# Altium schematic symbol library MY.SchLib: 652 symbols (part 4 of 7)
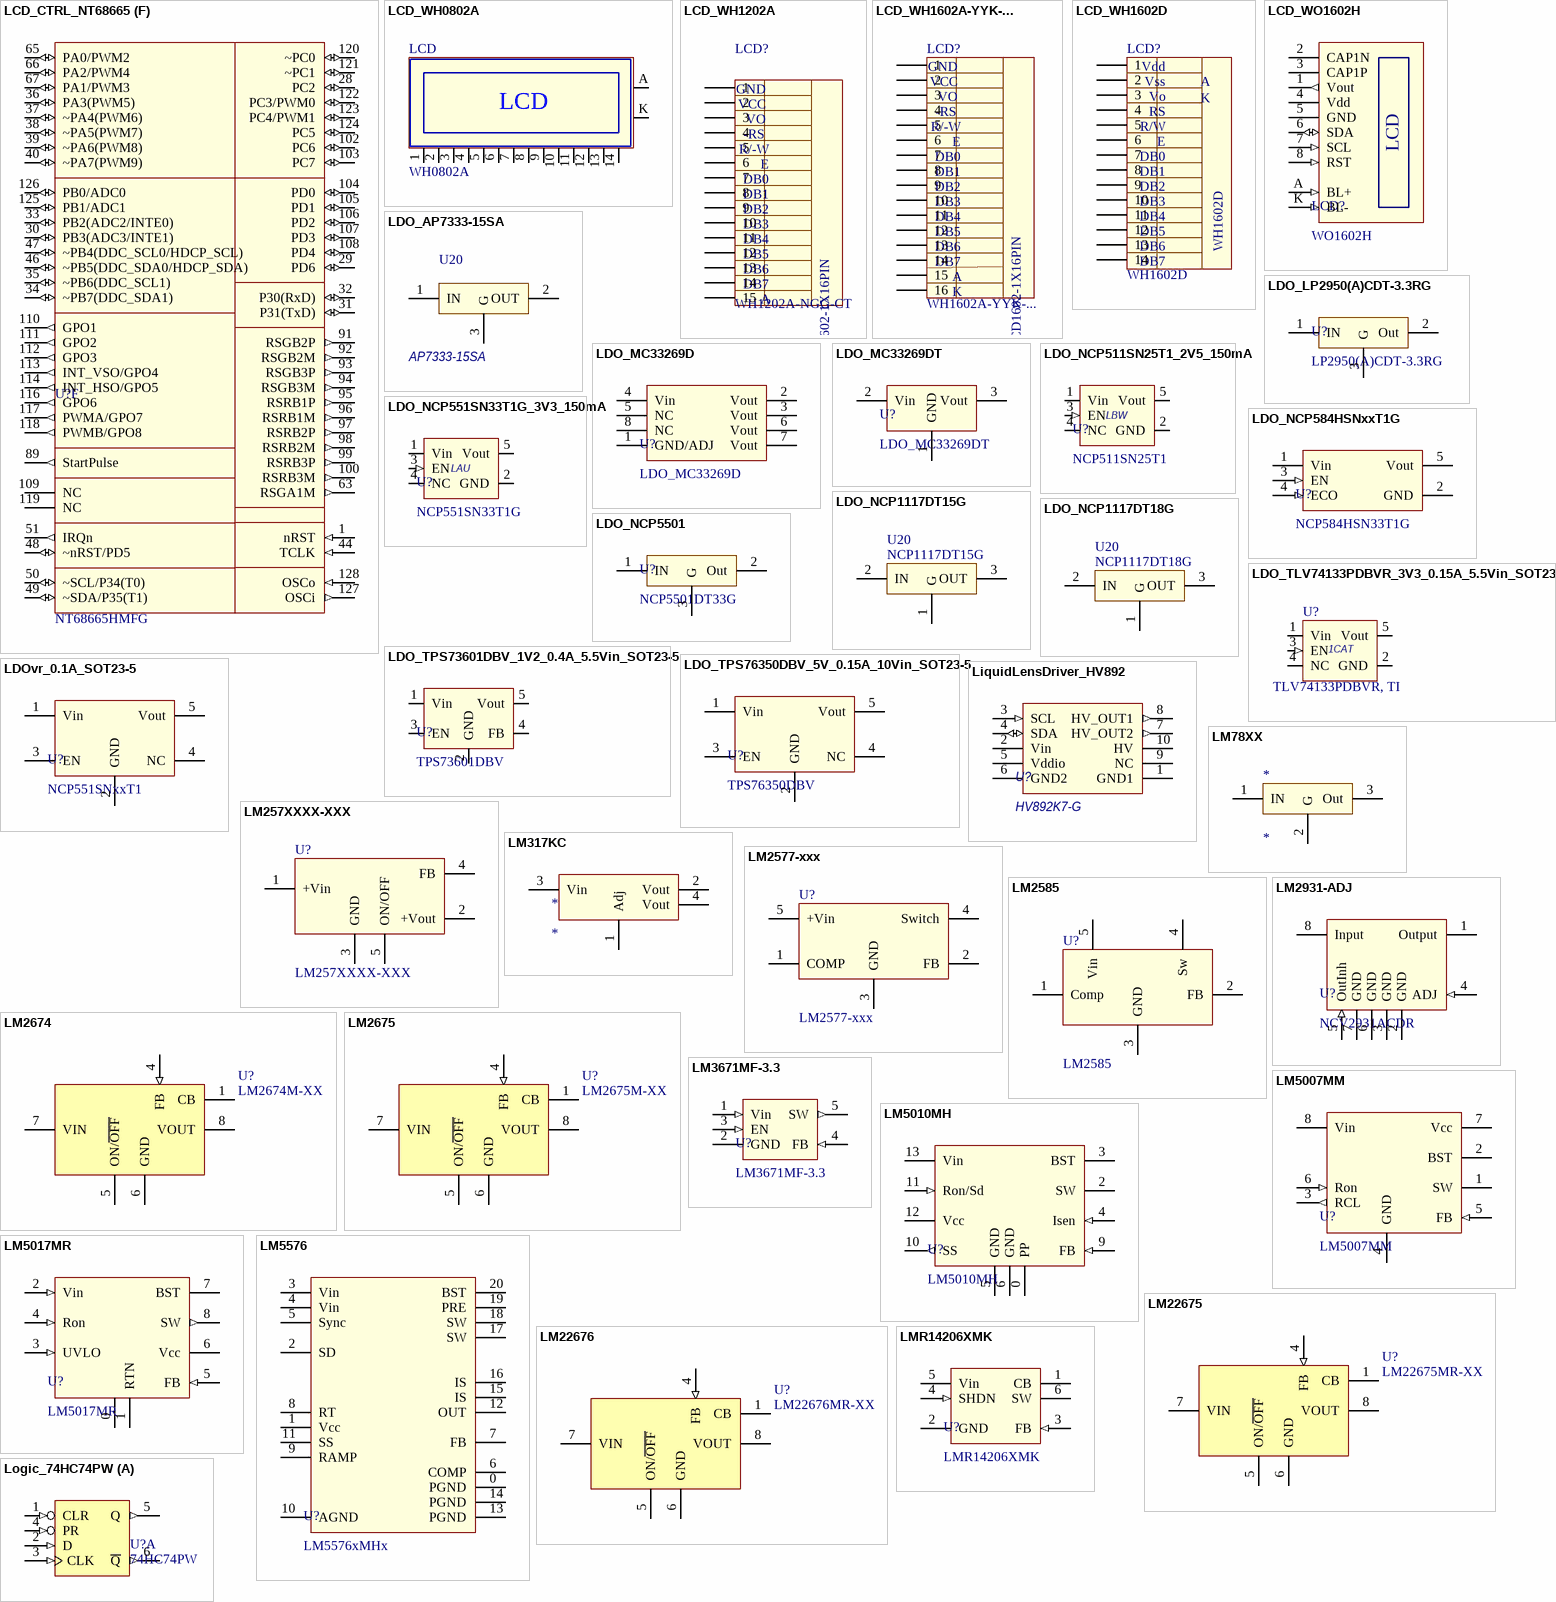
[diagram p44: symbols LCD_CTRL_NT68665 to Logic_74HC74PW]

## LCD_CTRL_NT68665
designator U?, comment NT68665HMFG
footprint QFP-128_wPowerPad
part A pins: 19 BIN+ (in), 20 BIN- (in), 21 SOGI1 (in), 22 GIN1+ (in), 23 GIN1- (in), 24 RIN1+ (in), 25 RIN1- (in), 41 ~HSYNCI1 (in), 42 ~VSYNCI0/TOUTP (in)
part B pins: 4 TMDS_Rx2+ (in), 5 TMDS_Rx2- (in), 7 TMDS_Rx1+ (in), 8 TMDS_Rx1- (in), 10 TMDS_Rx0+ (in), 11 TMDS_Rx0- (in), 13 TMDS_RxC+ (in), 14 TMDS_RxC- (in), 16 TMDS_Rext (in)
part C pins: 68 RSGA2P/LVDS_T7P (out), 69 RSGA2M/LVDS_T7M (out), 70 RSGA3P/LVDS_CLK2P (out), 71 RSGA3M/LVDS_CLK2M (out), 72 RSRA1P/LVDS_T6P/RSBB0P (out), 73 RSRA1M/LVDS_T6M/RSBB0M (out), 74 RSRA2P/LVDS_T5P/RSGB0P (out), 75 RSRA2M/LVDS_T5M/RSGB0M (out), 76 RSRA3P/LVDS_T4P/RSRB0P (out), 77 RSRA3M/LVDS_T4M/RSRB0M (out), 79 RSBB1P/LVDS_T3P (out), 80 RSBB1M/LVDS_T3M (out), 81 RSBB2P/LVDS_CLK1P (out), 82 RSBB2M/LVDS_CLK1M (out), 83 RSBB3P/LVDS_T2P (out), 84 RSBB3M/LVDS_T2M (out), 85 RSCLKBP/LVDS_T1P (out), 86 RSCLKBM/LVDS_T1M (out), 87 RSGB1P/LVDS_T0P (out), 88 RSGB1M/LVDS_T0M (out)
part D pins: 54 RSBA1P/V0 (io), 55 RSBA1M/V1 (io), 56 RSBA2P/V2 (io), 57 RSBA2M/V3 (io), 58 RSBA3P/V4 (io), 59 RSBA3M/V5 (io), 60 RSCLKAP/V6 (io), 61 RSCLKAM/V7 (io), 62 RSGA1P/YUV_CLK (io)
part E pins: 0 PowerPad, 2 MCU_3V3 (power), 3 MCU_GND (power), 6 3V3_TMDS_AVcc (power), 9 TMDS_AGND (power), 12 TMDS_AGND (power), 15 3V3_TMDS_AVcc (power), 17 3V3_TMDS_PVcc (power), 18 TMDS_PGND (power), 26 ADC_Vaa (power), 27 ADC_GNDA (power), 43 PLL_GND (power), 45 1V8_PLL_Vdd (power), 52 1V8CVdd (power), 53 DVDD (power), 64 DGND/CGND (power), 78 DGND/CGND (power), 90 DVDD (power), 101 DGND/CGND (power), 115 1V8CVdd (power)
part F pins: 1 nRST (in), 28 PC2 (io), 29 PD6 (io), 30 PB3(ADC3/INTE1) (io), 31 P31(TxD) (io), 32 P30(RxD) (io), 33 PB2(ADC2/INTE0) (io), 34 ~PB7(DDC_SDA1) (io), 35 ~PB6(DDC_SCL1) (io), 36 PA3(PWM5) (io), 37 ~PA4(PWM6) (io), 38 ~PA5(PWM7) (io), 39 ~PA6(PWM8) (io), 40 ~PA7(PWM9) (io), 44 TCLK (in), 46 ~PB5(DDC_SDA0/HDCP_SDA) (io), 47 ~PB4(DDC_SCL0/HDCP_SCL) (io), 48 ~nRST/PD5 (io), 49 ~SDA/P35(T1) (io), 50 ~SCL/P34(T0) (io), 51 IRQn (out), 63 RSGA1M (out), 65 PA0/PWM2 (io), 66 PA2/PWM4 (io), 67 PA1/PWM3 (io), 89 StartPulse (out), 91 RSGB2P (out), 92 RSGB2M (out), 93 RSGB3P (out), 94 RSGB3M (out), 95 RSRB1P (out), 96 RSRB1M (out), 97 RSRB2P (out), 98 RSRB2M (out), 99 RSRB3P (out), 100 RSRB3M (out), 102 PC6 (io), 103 PC7 (io), 104 PD0 (io), 105 PD1 (io), 106 PD2 (io), 107 PD3 (io), 108 PD4 (io), 109 NC, 110 GPO1 (out), 111 GPO2 (out), 112 GPO3 (out), 113 INT_VSO/GPO4 (out), 114 INT_HSO/GPO5 (out), 116 GPO6 (out), 117 PWMA/GPO7 (out), 118 PWMB/GPO8 (out), 119 NC, 120 ~PC0 (io), 121 ~PC1 (io), 122 PC3/PWM0 (io), 123 PC4/PWM1 (io), 124 PC5 (io), 125 PB1/ADC1 (io), 126 PB0/ADC0 (io), 127 OSCi (out), 128 OSCo (in)

## LCD_WH0802A
designator LCD, comment WH0802A
footprint LCD_WH0802A
pins: 1, 2, 3, 4, 5, 6, 7, 8, 9, 10, 11, 12, 13, 14, A, K

## LCD_WH1202A
designator LCD?, comment WH1202A-NGG-CT
footprint LCD_WH1202_for 3xx series
pins: 1, 2, 3, 4, 5, 6, 7, 8, 9, 10, 11, 12, 13, 14, 15
text: GND; VCC; VO; -RS; R/-W; E; DB0; DB1; DB2; DB3; DB4; DB5; DB6; LCD1602-1X16PIN; DB7; A

## LCD_WH1602A-YYK-...
designator LCD?, comment WH1602A-YYK-...
footprint LCD_WH1602A_
pins: 1, 2, 3, 4, 5, 6, 7, 8, 9, 10, 11, 12, 13, 14, 15, 16
text: GND; VCC; VO; -RS; R/-W; E; DB0; DB1; DB2; DB3; DB4; DB5; DB6; LCD1602-1X16PIN; DB7; A; K

## LCD_WH1602D
designator LCD?, comment WH1602D
footprint LCD_WH1602D
pins: 1, 2, 3, 4, 5, 6, 7, 8, 9, 10, 11, 12, 13, 14
text: Vdd; Vss; A; Vo; K; RS; R/W; E; DB0; DB1; DB2; DB3; DB4; DB5; DB6; DB7

## LCD_WO1602H
designator LCD?, comment WO1602H
Analog: RX1602A4-YHW-TS
footprint LCD_WO1602H
pins: 1 Vout (out), 2 CAP1N, 3 CAP1P, 4 Vdd (power), 5 GND (power), 6 SDA (io), 7 SCL (in), 8 RST (in), A BL+ (in), K BL- (in)
text: LCD

## LDO_AP7333-15SA
designator U20, comment value AP7333-15SA  (hidden comment: AP7333-15SA, DiodesInc)
HelpURL: L:\Dev\Техническая документация\Стабилизаторы напряжения\LDO\DiodesInc\AP7333.pdf
footprint SOT23 (SOT-23; 3 Leads; Body 3.0 x 2.5 mm, inc. leads (LxW max))
pins: 1 IN, 2 OUT, 3 G

## LDO_LP2950(A)CDT-3.3RG
designator U?, comment LP2950(A)CDT-3.3RG
footprint D-PAK
pins: 1 IN, 2 Out, 3 G

## LDO_MC33269D
designator U?
footprint SO8
pins: 1 GND/ADJ, 2 Vout, 3 Vout, 4 Vin, 5 NC, 6 Vout, 7 Vout, 8 NC

## LDO_MC33269DT
designator U?
footprint D-PAK
pins: 1 GND, 2 Vin, 3 Vout

## LDO_NCP511SN25T1_2V5_150mA
designator U?, comment NCP511SN25T1
HelpURL: L:\Dev\Техническая документация\Стабилизаторы напряжения\LDO\ONsemiconductor\ncp511.pdf
footprint SOT_23-5 (SOT23, 5-Leads, Body 2,90x2,70mm, Pitch 0,95mm, IPC Medium Density)
pins: 1 Vin (power), 2 GND (power), 3 EN (in), 4 NC, 5 Vout (power)
text: LBW

## LDO_NCP551SN33T1G_3V3_150mA
designator U?, comment NCP551SN33T1G
HelpURL: L:\Dev\Техническая документация\Стабилизаторы напряжения\LDO\SOT23-5\NCP551-D.PDF
footprint SOT_23-5 (SOT23, 5-Leads, Body 2,90x2,70mm, Pitch 0,95mm, IPC Medium Density)
pins: 1 Vin (power), 2 GND (power), 3 EN (in), 4 NC, 5 Vout (power)
text: LAU

## LDO_NCP584HSNxxT1G
designator U?, comment NCP584HSN33T1G
HelpURL: L:\Dev\Техническая документация\Стабилизаторы напряжения\LDO\SOT23-5\NCP584-D_200mA.PDF
footprint SOT_23-5 (SOT23, 5-Leads, Body 2,90x2,70mm, Pitch 0,95mm, IPC Medium Density)
pins: 1 Vin (power), 2 GND (power), 3 EN (in), 4 ECO (in), 5 Vout (power)

## LDO_NCP1117DT15G
designator U20, comment NCP1117DT15G
HelpURL: L:\Dev\Техническая документация\Стабилизаторы напряжения\LDO\ONsemiconductor\NCP1117-D.PDF
footprint D-PAK
pins: 1 G, 2 IN, 3 OUT

## LDO_NCP1117DT18G
designator U20, comment NCP1117DT18G
HelpURL: L:\Dev\Техническая документация\Стабилизаторы напряжения\LDO\ONsemiconductor\NCP1117-D.PDF
footprint D-PAK
pins: 1 G, 2 IN, 3 OUT

## LDO_NCP5501
designator U?, comment NCP5501DT33G
Analog: K78xx-500 (Morsun), PSR-78xxLF(Peak)
footprint D-PAK
pins: 1 IN, 2 Out, 3 G

## LDO_TLV74133PDBVR_3V3_0.15A_5.5Vin_SOT23-5
designator U?, comment TLV74133PDBVR, TI  Marking Code: 1CAT
HelpURL: L:\Dev\Техническая документация\Стабилизаторы напряжения\LDO\SOT23-5\tlv741p.pdf
footprint SOT_23-5 (SOT23, 5-Leads, Body 2,90x2,70mm, Pitch 0,95mm, IPC Medium Density)
pins: 1 Vin (power), 2 GND (power), 3 EN (in), 4 NC, 5 Vout (power)

## LDO_TPS73601DBV_1V2_0.4A_5.5Vin_SOT23-5
designator U?, comment TPS73601DBV
Vfb: 1.2V; HelpURL: L:\Dev\Техническая документация\Стабилизаторы напряжения\LDO\TI\CapFree\tps736xx_0.4A_5.5V.pdf
footprint SOT_23-5 (SOT23, 5-Leads, Body 2,90x2,70mm, Pitch 0,95mm, IPC Medium Density)
pins: 1 Vin, 2 GND, 3 EN, 4 FB, 5 Vout

## LDO_TPS76350DBV_5V_0.15A_10Vin_SOT23-5
designator U?, comment TPS76350DBV
HelpURL: L:\Dev\Техническая документация\Стабилизаторы напряжения\LDO\SOT23-5\ti~tps76301.pdf
footprint SOT_23-5 (SOT23, 5-Leads, Body 2,90x2,70mm, Pitch 0,95mm, IPC Medium Density)
pins: 1 Vin, 2 GND, 3 EN, 4 NC, 5 Vout

## LDOvr_0.1A_SOT23-5
designator U?, comment NCP551SNxxT1
Analog: NCP(V)551,MC78PC,TPS761,LP2981
footprint SOT_23-5 (SOT23, 5-Leads, Body 2,90x2,70mm, Pitch 0,95mm, IPC Medium Density)
pins: 1 Vin, 2 GND, 3 EN, 4 NC, 5 Vout

## LiquidLensDriver_HV892
designator U?, comment HV892K7-G
I2C_address: 0100011b; HelpURL: L:\Dev\Техническая документация\Драйвер жидкой линзы\HV892 A042314.pdf
footprint DFN-10_4x4_0.65p
pins: 0, 1 GND1 (power), 2 Vin (power), 3 SCL (in), 4 SDA (io), 5 Vddio (power), 6 GND2 (power), 7 HV_OUT2 (out), 8 HV_OUT1 (out), 9 NC, 10 HV (power)

## LM78XX
designator *
footprint TO-220_surface
pins: 1 IN, 2 G, 3 Out, 4 GND

## LM257XXXX-XXX
designator U?
footprint TO-263-5LEADS
pins: 0 hidden, 1 +Vin, 2 +Vout, 3 GND, 4 FB, 5 ON/OFF

## LM317KC
designator *
footprint TO-220_surface
pins: 1 Adj, 2 Vout, 3 Vin, 4 Vout

## LM2577-xxx
designator U?
footprint TO-263-5LEADS
pins: 0 hidden, 1 COMP, 2 FB, 3 GND, 4 Switch, 5 +Vin

## LM2585
designator U?
footprint TO-263-5LEADS
pins: 0 hidden, 1 Comp, 2 FB, 3 GND, 4 Sw, 5 Vin

## LM2674
designator U?, comment LM2674M-XX
DC/DC voltage regulator
footprint SO8
pins: 1 CB, 4 FB (in), 5 ON/~{OFF}, 6 GND (power), 7 VIN (power), 8 VOUT (power)

## LM2675
designator U?, comment LM2675M-XX
DC/DC voltage regulator
footprint SO8
pins: 1 CB, 4 FB (in), 5 ON/~{OFF}, 6 GND (power), 7 VIN (power), 8 VOUT (power)

## LM2931-ADJ
designator U?, comment NCV2931ACDR
footprint SO8
pins: 1 Output (power), 2 GND (power), 3 GND (power), 4 ADJ (in), 5 OutInh (in), 6 GND (power), 7 GND (power), 8 Input (power)

## LM3671MF-3.3
designator U?
HelpURL: L:\Dev\Техническая документация\Стабилизаторы напряжения\Импульсные (DC-DC не изол)\1MHZ\lm3671.pdf
footprint SOT23-5
pins: 1 Vin (in), 2 GND (power), 3 EN (in), 4 FB (in), 5 SW (out)

## LM5007MM
designator U?
footprint VSSOP8(TI)
pins: 1 SW (oe), 2 BST (power), 3 RCL (out), 4 GND (power), 5 FB (in), 6 Ron (in), 7 Vcc (power), 8 Vin (power)

## LM5010MH
designator U?
footprint TSSOP14_powerpad
pins: 0 PP, 1 NC hidden, 2 SW (oe), 3 BST (power), 4 Isen (in), 5 GND (power), 6 GND (power), 7 NC hidden, 8 NC hidden, 9 FB (in), 10 SS (out), 11 Ron/Sd (in), 12 Vcc (power), 13 Vin (power), 14 NC hidden

## LM5017MR
designator U?
footprint SO8 _power
pins: 0 PowerPAD (power), 1 RTN (power), 2 Vin (in), 3 UVLO (in), 4 Ron (in), 5 FB (in), 6 Vcc (power), 7 BST (power), 8 SW (out)

## LM5576
designator U?, comment LM5576xMHx
footprint TSSOP20
pins: 0 PGND (power), 1 Vcc (power), 2 SD (power), 3 Vin (power), 4 Vin (power), 5 Sync (power), 6 COMP (power), 7 FB (power), 8 RT (power), 9 RAMP (power), 10 AGND (power), 11 SS (power), 12 OUT (power), 13 PGND (power), 14 PGND (power), 15 IS (power), 16 IS (power), 17 SW (power), 18 SW (power), 19 PRE (power), 20 BST (power)

## LM22675
designator U?, comment LM22675MR-XX
DC/DC voltage regulator
footprint SO8 _power
pins: 0 (power), 1 CB, 4 FB (in), 5 ON/~{OFF}, 6 GND (power), 7 VIN (power), 8 VOUT (power)

## LM22676
designator U?, comment LM22676MR-XX
DC/DC voltage regulator
footprint SO8 _power
pins: 0 (power), 1 CB, 4 FB (in), 5 ON/~{OFF}, 6 GND (power), 7 VIN (power), 8 VOUT (power)

## LMR14206XMK
designator U?
footprint SOT23-6
pins: 1 CB (power), 2 GND (power), 3 FB (in), 4 SHDN (in), 5 Vin (power), 6 SW (power)

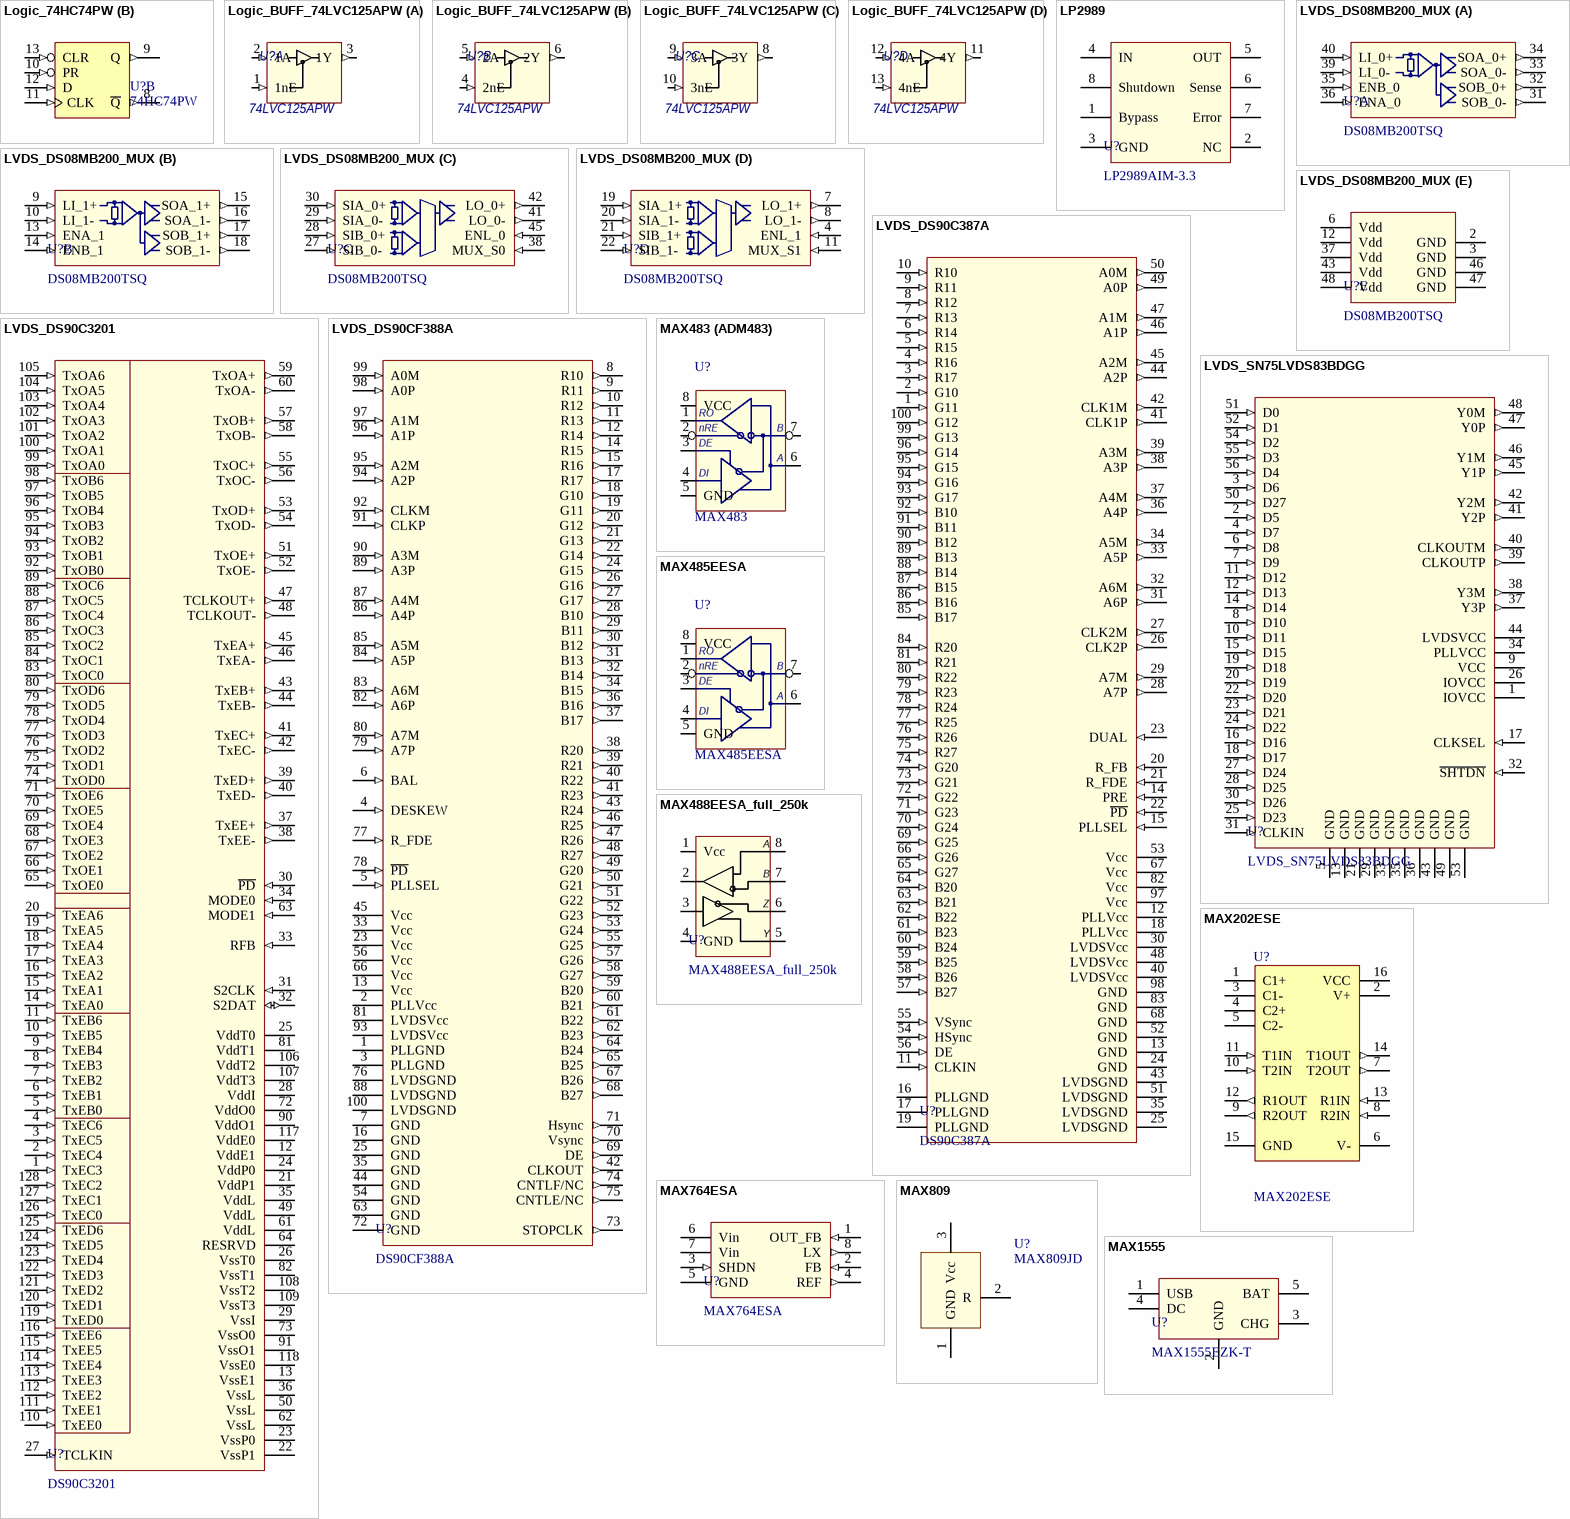
[diagram p18: symbols Logic_74HC74PW to MAX1555]

## Logic_74HC74PW
designator U?, comment 74HC74PW
Dual D-Type Flip-Flop with Preset and Clear; Published: 8-Jun-2000; LatestRevisionDate: 13-Apr-2006; LatestRevisionNote: IPC-7351 Footprint Added.; DatasheetVersion: Oct-1992; PackageVersion: Sep-1998; PackageReference: SO14; Publisher: Altium Limited; PackageDescription: 14-Pin Small Outline Integrated Circuit 1.27 mm Pitch; Code_IPC: SOIC127P600-14; ComponentLink1Description: Manufacturer Link; ComponentLink1URL: http://www.st.com/; ComponentLink2Description: Datasheet; ComponentLink2URL: http://www.st.com/stonline/products/literature/ds/2000/m74hc74.pdf; HelpURL: L:\Dev\Техническая документация\Логика\Триггеры\RS&D\sn74hc74.pdf; Price, $: 0.1
footprint TSSOP14
pins on every part: 7 GND (power) hidden to GND, 14 VCC (power) hidden to 3V3
part A pins: 1 CLR (in), 2 D (in), 3 CLK (in), 4 PR (in), 5 Q (out), 6 ~{Q} (out)
part B pins: 8 ~{Q} (out), 9 Q (out), 10 PR (in), 11 CLK (in), 12 D (in), 13 CLR (in)

## Logic_BUFF_74LVC125APW
designator U?, comment value 74LVC125APW  (hidden comment: 74LVC125APW, Nexperia)
Analog: SN74LVC125APW, TI;; HelpURL: L:\Dev\Техническая документация\Логика\Буферы\4ch_nonInverted_74LVC125A_Nexperia.pdf; ComponentLink1Description: SN74LVC125A_Datasheet; ComponentLink1URL: L:\Dev\Техническая документация\Логика\Буферы\4ch_nonInverted_sn74lvc125a_TI.pdf
footprint TSSOP14
part A pins: 1 1nE (in), 2 1A (in), 3 1Y (out), 7 GND (power) hidden to GND, 14 Vcc (power) hidden to 3V3
part B pins: 4 2nE (in), 5 2A (in), 6 2Y (out)
part C pins: 8 3Y (out), 9 3A (in), 10 3nE (in)
part D pins: 11 4Y (out), 12 4A (in), 13 4nE (in)

## LP2989
designator U?, comment LP2989AIM-3.3
footprint SO8
pins: 1 Bypass, 2 NC, 3 GND, 4 IN, 5 OUT, 6 Sense, 7 Error, 8 Shutdown

## LVDS_DS08MB200_MUX
designator U?, comment DS08MB200TSQ
footprint WQFN48
part A pins: 31 SOB_0- (out), 32 SOB_0+ (out), 33 SOA_0- (out), 34 SOA_0+ (out), 35 ENB_0 (in), 36 ENA_0 (in), 39 LI_0- (in), 40 LI_0+ (in)
part B pins: 9 LI_1+ (in), 10 LI_1- (in), 13 ENA_1 (in), 14 ENB_1 (in), 15 SOA_1+ (out), 16 SOA_1- (out), 17 SOB_1+ (out), 18 SOB_1- (out)
part C pins: 27 SIB_0- (in), 28 SIB_0+ (in), 29 SIA_0- (in), 30 SIA_0+ (in), 38 MUX_S0 (in), 41 LO_0- (out), 42 LO_0+ (out), 45 ENL_0 (in)
part D pins: 4 ENL_1 (in), 7 LO_1+ (out), 8 LO_1- (out), 11 MUX_S1 (in), 19 SIA_1+ (in), 20 SIA_1- (in), 21 SIB_1+ (in), 22 SIB_1- (in)
part E pins: 1 NC hidden, 2 GND (power), 3 GND (power), 5 NC hidden, 6 Vdd (power), 12 Vdd (power), 23 NC hidden, 24 NC hidden, 25 NC hidden, 26 NC hidden, 37 Vdd (power), 43 Vdd (power), 44 NC hidden, 46 GND (power), 47 GND (power), 48 Vdd (power)

## LVDS_DS90C387A
designator U?, comment DS90C387A
footprint TQFP-100(100A)
pins: 1 G11 (in), 2 G10 (in), 3 R17 (in), 4 R16 (in), 5 R15 (in), 6 R14 (in), 7 R13 (in), 8 R12 (in), 9 R11 (in), 10 R10 (in), 11 CLKIN (in), 12 PLLVcc (power), 13 GND (power), 14 PRE (in), 15 PLLSEL (in), 16 PLLGND (power), 17 PLLGND (power), 18 PLLVcc (power), 19 PLLGND (power), 20 R_FB (in), 21 R_FDE (in), 22 ~{PD} (in), 23 DUAL (in), 24 GND (power), 25 LVDSGND (power), 26 CLK2P (out), 27 CLK2M (out), 28 A7P (out), 29 A7M (out), 30 LVDSVcc (power), 31 A6P (out), 32 A6M (out), 33 A5P (out), 34 A5M (out), 35 LVDSGND (power), 36 A4P (out), 37 A4M (out), 38 A3P (out), 39 A3M (out), 40 LVDSVcc (power), 41 CLK1P (out), 42 CLK1M (out), 43 LVDSGND (power), 44 A2P (out), 45 A2M (out), 46 A1P (out), 47 A1M (out), 48 LVDSVcc (power), 49 A0P (out), 50 A0M (out), 51 LVDSGND (power), 52 GND (power), 53 Vcc (power), 54 HSync (in), 55 VSync (in), 56 DE (in), 57 B27 (in), 58 B26 (in), 59 B25 (in), 60 B24 (in), 61 B23 (in), 62 B22 (in), 63 B21 (in), 64 B20 (in), 65 G27 (in), 66 G26 (in), 67 Vcc (power), 68 GND (power), 69 G25 (in), 70 G24 (in), 71 G23 (in), 72 G22 (in), 73 G21 (in), 74 G20 (in), 75 R27 (in), 76 R26 (in), 77 R25 (in), 78 R24 (in), 79 R23 (in), 80 R22 (in), 81 R21 (in), 82 Vcc (power), 83 GND (power), 84 R20 (in), 85 B17 (in), 86 B16 (in), 87 B15 (in), 88 B14 (in), 89 B13 (in), 90 B12 (in), 91 B11 (in), 92 B10 (in), 93 G17 (in), 94 G16 (in), 95 G15 (in), 96 G14 (in), 97 Vcc (power), 98 GND (power), 99 G13 (in), 100 G12 (in)

## LVDS_DS90C3201
designator U?, comment DS90C3201
footprint TQFP128
pins: 1 TxEC3 (in), 2 TxEC4 (in), 3 TxEC5 (in), 4 TxEC6 (in), 5 TxEB0 (in), 6 TxEB1 (in), 7 TxEB2 (in), 8 TxEB3 (in), 9 TxEB4 (in), 10 TxEB5 (in), 11 TxEB6 (in), 12 VddE1 (power), 13 VssE1 (power), 14 TxEA0 (in), 15 TxEA1 (in), 16 TxEA2 (in), 17 TxEA3 (in), 18 TxEA4 (in), 19 TxEA5 (in), 20 TxEA6 (in), 21 VddP1 (power), 22 VssP1 (power), 23 VssP0 (power), 24 VddP0 (power), 25 VddT0 (power), 26 VssT0 (power), 27 TCLKIN (in), 28 VddI (power), 29 VssI (power), 30 ~{PD} (in), 31 S2CLK (in), 32 S2DAT (io), 33 RFB (in), 34 MODE0 (in), 35 VddL (power), 36 VssL (power), 37 TxEE+ (out), 38 TxEE- (out), 39 TxED+ (out), 40 TxED- (out), 41 TxEC+ (out), 42 TxEC- (out), 43 TxEB+ (out), 44 TxEB- (out), 45 TxEA+ (out), 46 TxEA- (out), 47 TCLKOUT+ (out), 48 TCLKOUT- (out), 49 VddL (power), 50 VssL (power), 51 TxOE+ (out), 52 TxOE- (out), 53 TxOD+ (out), 54 TxOD- (out), 55 TxOC+ (out), 56 TxOC- (out), 57 TxOB+ (out), 58 TxOB- (out), 59 TxOA+ (out), 60 TxOA- (out), 61 VddL (power), 62 VssL (power), 63 MODE1 (in), 64 RESRVD (power), 65 TxOE0 (in), 66 TxOE1 (in), 67 TxOE2 (in), 68 TxOE3 (in), 69 TxOE4 (in), 70 TxOE5 (in), 71 TxOE6 (in), 72 VddO0 (power), 73 VssO0 (power), 74 TxOD0 (in), 75 TxOD1 (in), 76 TxOD2 (in), 77 TxOD3 (in), 78 TxOD4 (in), 79 TxOD5 (in), 80 TxOD6 (in), 81 VddT1 (power), 82 VssT1 (power), 83 TxOC0 (in), 84 TxOC1 (in), 85 TxOC2 (in), 86 TxOC3 (in), 87 TxOC4 (in), 88 TxOC5 (in), 89 TxOC6 (in), 90 VddO1 (power), 91 VssO1 (power), 92 TxOB0 (in), 93 TxOB1 (in), 94 TxOB2 (in), 95 TxOB3 (in), 96 TxOB4 (in), 97 TxOB5 (in), 98 TxOB6 (in), 99 TxOA0 (in), 100 TxOA1 (in), 101 TxOA2 (in), 102 TxOA3 (in), 103 TxOA4 (in), 104 TxOA5 (in), 105 TxOA6 (in), 106 VddT2 (power), 107 VddT3 (power), 108 VssT2 (power), 109 VssT3 (power), 110 TxEE0 (in), 111 TxEE1 (in), 112 TxEE2 (in), 113 TxEE3 (in), 114 TxEE4 (in), 115 TxEE5 (in), 116 TxEE6 (in), 117 VddE0 (power), 118 VssE0 (power), 119 TxED0 (in), 120 TxED1 (in), 121 TxED2 (in), 122 TxED3 (in), 123 TxED4 (in), 124 TxED5 (in), 125 TxED6 (in), 126 TxEC0 (in), 127 TxEC1 (in), 128 TxEC2 (in)

## LVDS_DS90CF388A
designator U?, comment DS90CF388A
footprint TQFP-100(100A)
pins: 1 PLLGND (power), 2 PLLVcc (power), 3 PLLGND (power), 4 DESKEW (in), 5 PLLSEL (in), 6 BAL (in), 7 GND (power), 8 R10 (out), 9 R11 (out), 10 R12 (out), 11 R13 (out), 12 R14 (out), 13 Vcc (power), 14 R15 (out), 15 R16 (out), 16 GND (power), 17 R17 (out), 18 G10 (out), 19 G11 (out), 20 G12 (out), 21 G13 (out), 22 G14 (out), 23 Vcc (power), 24 G15 (out), 25 GND (power), 26 G16 (out), 27 G17 (out), 28 B10 (out), 29 B11 (out), 30 B12 (out), 31 B13 (out), 32 B14 (out), 33 Vcc (power), 34 B15 (out), 35 GND (power), 36 B16 (out), 37 B17 (out), 38 R20 (out), 39 R21 (out), 40 R22 (out), 41 R23 (out), 42 CLKOUT (out), 43 R24 (out), 44 GND (power), 45 Vcc (power), 46 R25 (out), 47 R26 (out), 48 R27 (out), 49 G20 (out), 50 G21 (out), 51 G22 (out), 52 G23 (out), 53 G24 (out), 54 GND (power), 55 G25 (out), 56 Vcc (power), 57 G26 (out), 58 G27 (out), 59 B20 (out), 60 B21 (out), 61 B22 (out), 62 B23 (out), 63 GND (power), 64 B24 (out), 65 B25 (out), 66 Vcc (power), 67 B26 (out), 68 B27 (out), 69 DE (out), 70 Vsync (out), 71 Hsync (out), 72 GND (power), 73 STOPCLK (out), 74 CNTLF/NC (out), 75 CNTLE/NC (out), 76 LVDSGND (power), 77 R_FDE (in), 78 ~{PD} (in), 79 A7P (in), 80 A7M (in), 81 LVDSVcc (power), 82 A6P (in), 83 A6M (in), 84 A5P (in), 85 A5M (in), 86 A4P (in), 87 A4M (in), 88 LVDSGND (power), 89 A3P (in), 90 A3M (in), 91 CLKP (in), 92 CLKM (in), 93 LVDSVcc (power), 94 A2P (in), 95 A2M (in), 96 A1P (in), 97 A1M (in), 98 A0P (in), 99 A0M (in), 100 LVDSGND (power)

## LVDS_SN75LVDS83BDGG
designator U?
footprint TSSOP56_R-PDSO-G
pins: 1 IOVCC (power), 2 D5 (in), 3 D6 (in), 4 D7 (in), 5 GND (power), 6 D8 (in), 7 D9 (in), 8 D10 (in), 9 VCC (power), 10 D11 (in), 11 D12 (in), 12 D13 (in), 13 GND (power), 14 D14 (in), 15 D15 (in), 16 D16 (in), 17 CLKSEL (in), 18 D17 (in), 19 D18 (in), 20 D19 (in), 21 GND (power), 22 D20 (in), 23 D21 (in), 24 D22 (in), 25 D23 (in), 26 IOVCC (power), 27 D24 (in), 28 D25 (in), 29 GND (power), 30 D26 (in), 31 CLKIN (in), 32 ~{SHTDN} (in), 33 GND (power), 34 PLLVCC (power), 35 GND (power), 36 GND (power), 37 Y3P (out), 38 Y3M (out), 39 CLKOUTP (out), 40 CLKOUTM (out), 41 Y2P (out), 42 Y2M (out), 43 GND (power), 44 LVDSVCC (power), 45 Y1P (out), 46 Y1M (out), 47 Y0P (out), 48 Y0M (out), 49 GND (power), 50 D27 (in), 51 D0 (in), 52 D1 (in), 53 GND (power), 54 D2 (in), 55 D3 (in), 56 D4 (in)

## MAX202ESE
designator U?
+5V RS-232 Transceiver with 0.1µF External Capacitor; Published: 16-Jan-2001; LatestRevisionDate: 13-Apr-2006; LatestRevisionNote: IPC-7351 Footprint Added.; DatasheetVersion: Dec-1996; PackageReference: NSO16; Publisher: Altium Limited; PackageDescription: 16-Pin Small Outline Integrated Circuit 1.27 mm Pitch; Code_JEDEC: MS-012-AC; Code_IPC: SOIC127P600-16; ComponentLink1Description: Manufacturer Link; ComponentLink1URL: http://www.maxim-ic.com/; ComponentLink2Description: Datasheet; ComponentLink2URL: http://pdfserv.maxim-ic.com/en/ds/MAX200-MAX213.pdf
footprint SO16
pins: 1 C1+, 2 V+ (power), 3 C1-, 4 C2+, 5 C2-, 6 V- (power), 7 T2OUT (out), 8 R2IN (in), 9 R2OUT (out), 10 T2IN (in), 11 T1IN (in), 12 R1OUT (out), 13 R1IN (in), 14 T1OUT (out), 15 GND (power), 16 VCC (power)

## MAX483 (ADM483)
designator U?, comment MAX483
footprint SO8
pins: 1 RO, 2 RE, 3, 4, 5 GND, 6, 7, 8 VCC
text: nRE; B; DE; A; DI

## MAX485EESA
designator U?
Analog: MAX13486EESA; HelpURL: L:\Dev\Техническая документация\Интерфейсы\422-485\MAX481_483_485.pdf; ComponentLink1Description: MAX13486EESA_Datasheet; ComponentLink1URL: L:\Dev\Техническая документация\Интерфейсы\422-485\MAX13485E-MAX13486E.pdf
footprint SO8
pins: 1 RO, 2 RE, 3, 4, 5 GND, 6, 7, 8 VCC
text: nRE; B; DE; A; DI

## MAX488EESA_full_250k
designator U?
Analog: MAX13081EESA
footprint SO8
pins: 1 Vcc, 2 RO, 3 DI, 4 GND, 5, 6, 7, 8 A
text: B; Z; Y

## MAX764ESA
designator U?
footprint SO8
pins: 1 OUT_FB (in), 2 FB (in), 3 SHDN (in), 4 REF (out), 5 GND (power), 6 Vin (power), 7 Vin (power), 8 LX (out)

## MAX809
designator U?, comment MAX809JD
footprint SOT23 (SOT-23; 3 Leads; Body 3.0 x 2.5 mm, inc. leads (LxW max))
pins: 1 GND, 2 R, 3 Vcc

## MAX1555
designator U?, comment MAX1555EZK-T
footprint SOT23-5
pins: 1 USB (power), 2 GND (power), 3 CHG (power), 4 DC (power), 5 BAT (power)

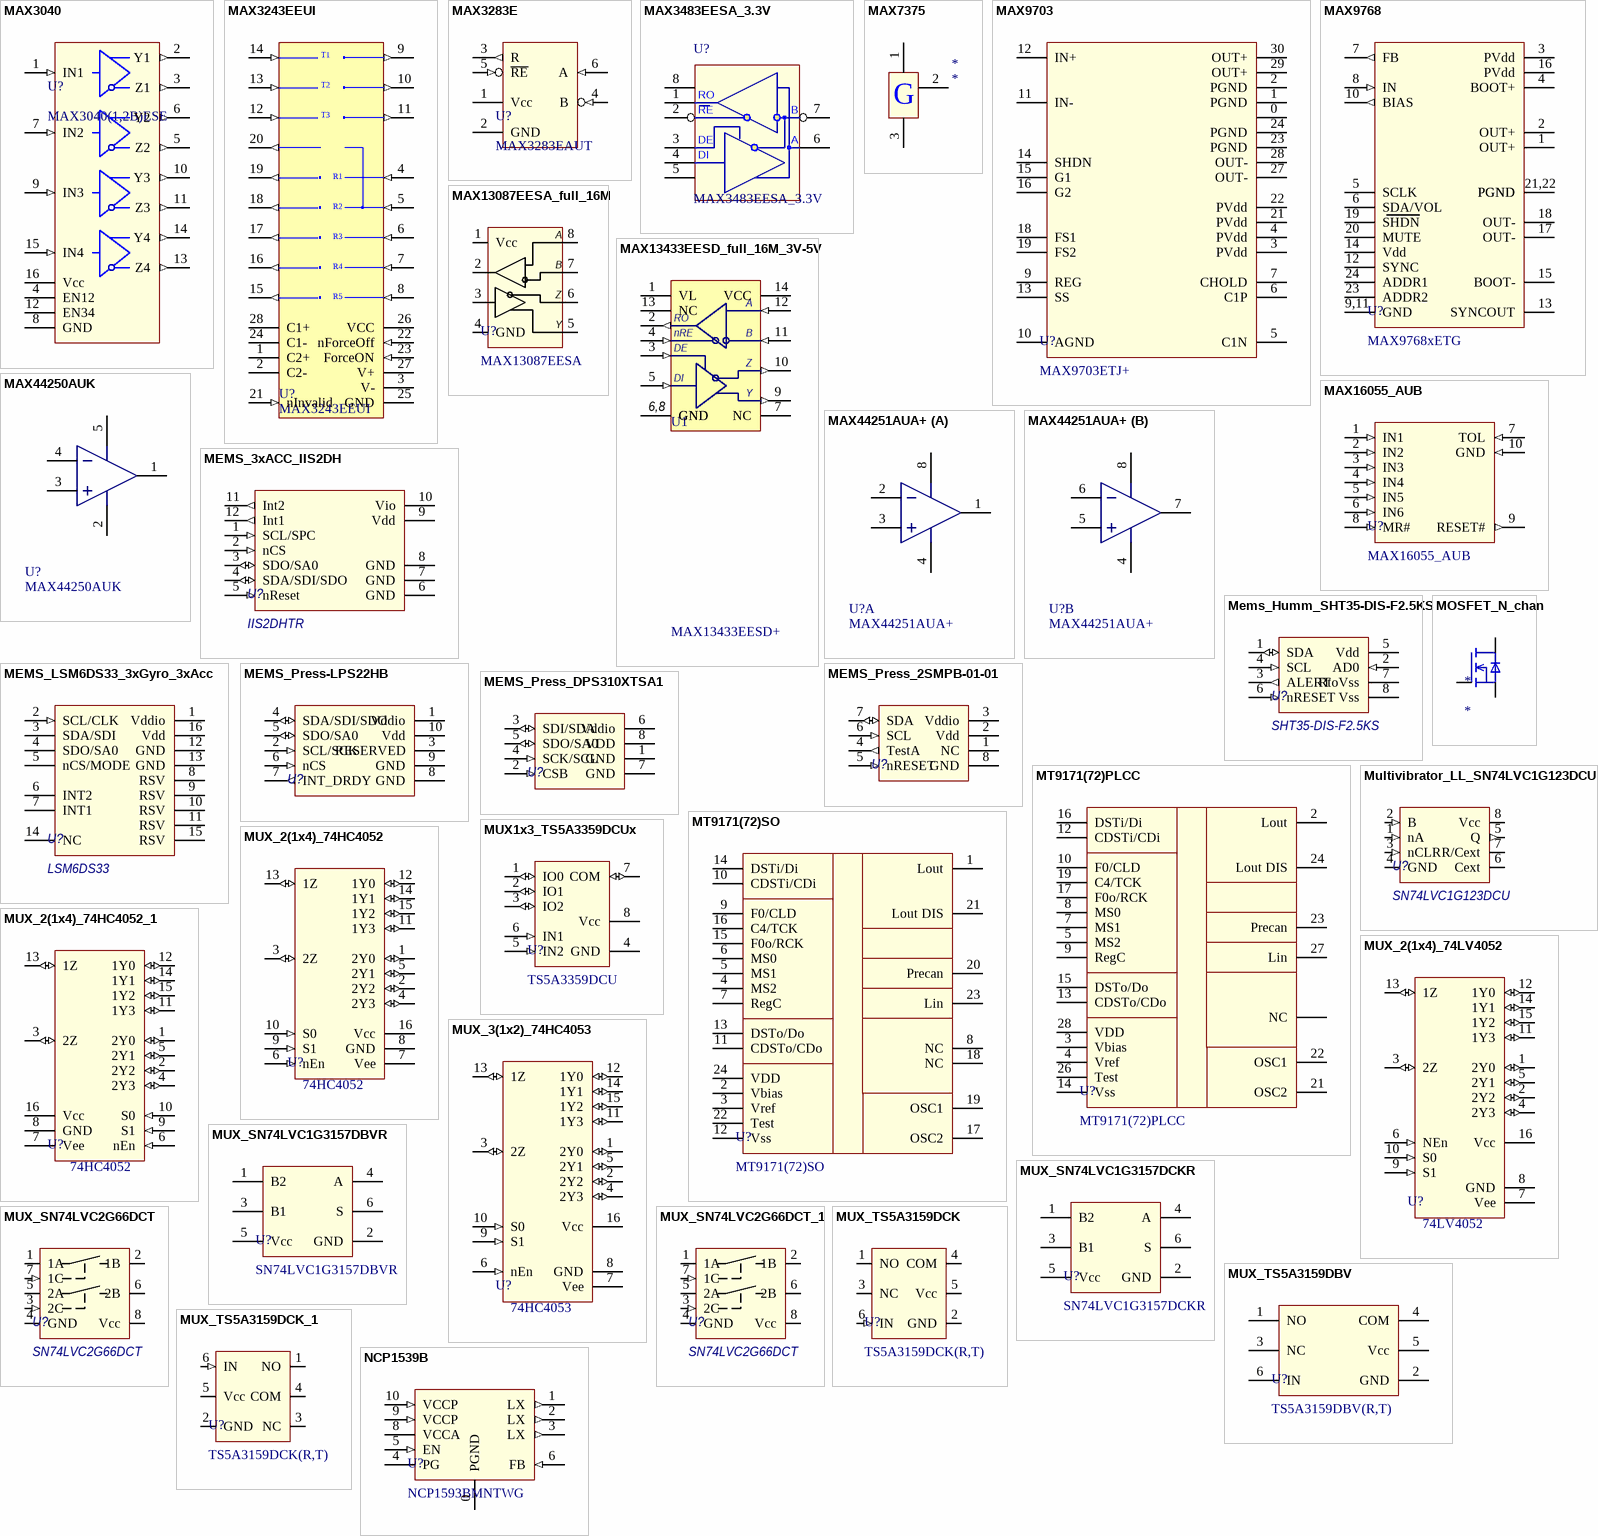
[diagram p19: symbols MAX3040 to NCP1539B]

## MAX3040
designator U?, comment MAX3040(1,2B)ESE
footprint SO16
pins: 1 IN1 (in), 2 Y1 (out), 3 Z1 (out), 4 EN12, 5 Z2 (out), 6 Y2 (out), 7 IN2 (in), 8 GND, 9 IN3 (in), 10 Y3 (out), 11 Z3 (out), 12 EN34, 13 Z4 (out), 14 Y4 (out), 15 IN4 (in), 16 Vcc

## MAX3243EEUI
designator U?
+3-5V RS-232 Transceiver with 0.1µF External Capacitor; Analog: MAX3243EIPWR; Published: 16-Jan-2001; LatestRevisionDate: 13-Apr-2006; LatestRevisionNote: IPC-7351 Footprint Added.; DatasheetVersion: Dec-1996; PackageReference: WSO28; Publisher: Altium Limited; PackageDescription: 28-Pin Small Outline Integrated Circuit 1.27 mm Pitch; ComponentLink1Description: Manufacturer Link; ComponentLink1URL: http://www.maxim-ic.com/; ComponentLink2Description: Datasheet; ComponentLink2URL: http://pdfserv.maxim-ic.com/en/ds/MAX200-MAX213.pdf
footprint WSO28_N (SOIC, 28-Leads, Body 17.9x7.5mm, Pitch 1.27mm, IPC Medium Density)
footprint WSO28_L (SOIC, 28-Leads, Body 17.9x7.5mm, Pitch 1.27mm, IPC High Density)
footprint WSO28_M (SOIC, 28-Leads, Body 17.9x7.5mm, Pitch 1.27mm, IPC Low Density)
footprint TSSOP28
pins: 1 C2+, 2 C2-, 3 V- (power), 4 R1IN (in), 5 R2IN (in), 6 R3IN (in), 7 R4IN (in), 8 R5IN (in), 9 T1OUT (out), 10 T2OUT (out), 11 T3OUT (out), 12 T3IN (in), 13 T2IN (in), 14 T1IN (in), 15 R5OUT (out), 16 R4OUT (out), 17 R3OUT (out), 18 R2OUT (out), 19 R1OUT (out), 20 R2OUTB (out), 21 nInvalid (in), 22 nForceOff (in), 23 ForceON (in), 24 C1-, 25 GND (power), 26 VCC (power), 27 V+ (power), 28 C1+
text: T1; T2; T3; R1; R2; R3; R4; R5

## MAX3283E
designator U?, comment MAX3283EAUT
footprint SOT23-6
pins: 1 Vcc (power), 2 GND (power), 3 R (out), 4 B (in), 5 ~{RE} (in), 6 A (in)

## MAX3483EESA_3.3V
designator U?
HelpURL: L:\Dev\Техническая документация\Интерфейсы\422-485\MAX3483E-MAX3491E_3,3V.pdf
footprint SO8
pins: 1, 2 RE, 3, 4, 5 GND, 6, 7, 8 VCC
text: RO; B; DE; A; DI

## MAX7375
designator *
footprint SC-70
pins: 1, 2, 3
text: G

## MAX9703
designator U?, comment MAX9703ETJ+
footprint PQFP-N32
pins: 0, 1 PGND, 2 PGND, 3 PVdd, 4 PVdd, 5 C1N, 6 C1P, 7 CHOLD, 8 NC hidden, 9 REG, 10 AGND, 11 IN-, 12 IN+, 13 SS, 14 SHDN, 15 G1, 16 G2, 17 NC hidden, 18 FS1, 19 FS2, 20 NC hidden, 21 PVdd, 22 PVdd, 23 PGND, 24 PGND, 25 NC hidden, 26 NC hidden, 27 OUT-, 28 OUT-, 29 OUT+, 30 OUT+, 31 NC hidden, 32 NC hidden

## MAX9768
designator U?, comment MAX9768xETG
footprint QFN24
pins: 0 GND (power), 1 OUT+ (power), 2 OUT+ (power), 3 PVdd (power), 4 BOOT+ (power), 5 SCLK (oc), 6 SDA/VOL (oc), 7 FB (out), 8 IN (in), 9 GND (power), 10 BIAS (out), 11 GND (power), 12 SYNC (power), 13 SYNCOUT (power), 14 Vdd (power), 15 BOOT- (power), 16 PVdd (power), 17 OUT- (power), 18 OUT- (power), 19 SHDN (power), 20 MUTE (power), 21 PGND (power), 22 PGND (power), 23 ADDR2 (power), 24 ADDR1 (power)
text: 21,22; 9,11

## MAX13087EESA_full_16M
designator U?, comment MAX13087EESA
footprint SO8
pins: 1 Vcc, 2 RO, 3 DI, 4 GND, 5, 6, 7, 8 A
text: B; Z; Y

## MAX13433EESD_full_16M_3V-5V
designator U1, comment MAX13433EESD+
Low-Power, RS-485/RS-422 Transceiver,; ComponentLink1Description: Manufacturer Link; ComponentLink1URL: https://www.maximintegrated.com/; ComponentLink2Description: Datasheet; ComponentLink2URL: L:\Dev\Техническая документация\Интерфейсы\422-485\MAX13430E-MAX13433E_FD_3.3-5V.pdf; HelpURL: L:\Dev\Техническая документация\Интерфейсы\422-485\MAX13430E-MAX13433E_FD_3.3-5V.pdf
footprint SO14
footprint NSO14_L (SOIC, 14-Leads, Body 8.7x3.9mm, Pitch 1.27mm, IPC High Density)
footprint NSO14_M (SOIC, 14-Leads, Body 8.7x3.9mm, Pitch 1.27mm, IPC Low Density)
3D model NSO14 (14-Pin Small Outline Integrated Circuit 1.27 mm Pitch)
pins: 1 VL (power), 2 RO (out), 3 DE (in), 4 nRE (in), 5 DI (in), 6 GND (power), 7 NC, 8 GND (power), 9 Y (out), 10 Z (out), 11 B (in), 12 A (in), 13 NC, 14 VCC (power)
text: 6,8

## MAX16055_AUB
designator U?
footprint MSOP10
pins: 1 IN1 (in), 2 IN2 (in), 3 IN3 (in), 4 IN4 (in), 5 IN5 (in), 6 IN6 (in), 7 TOL (in), 8 MR# (in), 9 RESET# (out), 10 GND (in)

## MAX44250AUK
designator U?
Operational Amplifier
footprint SOT23-5
pins: 1 OUT (power), 2 Vss (power), 3 +IN (power), 4 -IN (power), 5 Vcc (power)

## MAX44251AUA+
designator U?
Operational Amplifier
footprint uSOP8(uMAX8)
part A pins: 1 OUT (power), 2 -IN (power), 3 +IN (power), 4 Vss (power), 8 Vcc (power)
part B pins: 4 Vss (power), 5 +IN (power), 6 -IN (power), 7 OUT (power), 8 Vcc (power)

## MEMS_3xACC_IIS2DH
designator U?, comment IIS2DHTR
HelpURL: L:\Dev\Техническая документация\Датчики\MEMS\IIS2DH_3xAcc.pdf
footprint LGA-12_ST (PQFN, 16-Leads, Body 3,00x3,00mm, Pitch 0,50mm, IPC Medium Density)
pins: 1 SCL/SPC (in), 2 nCS (in), 3 SDO/SA0 (io), 4 SDA/SDI/SDO (io), 5 nReset (in), 6 GND (power), 7 GND (power), 8 GND (power), 9 Vdd (power), 10 Vio (power), 11 Int2 (out), 12 Int1 (out)

## Mems_Humm_SHT35-DIS-F2.5KS
designator U?, comment SHT35-DIS-F2.5KS
I2C_address: 100010xb (0x44; 0x45); HelpURL: L:\Dev\Техническая документация\Датчики\Датчики влажности\SHT3x_Datasheet_digital.pdf
footprint DFN-8_2.4x2.4_0.5p
pins: 0 (power), 1 SDA (io), 2 AD0 (in), 3 ALERT (out), 4 SCL (in), 5 Vdd (power), 6 nRESET (in), 7 RtoVss, 8 Vss (power)

## MEMS_LSM6DS33_3xGyro_3xAcc
designator U?, comment LSM6DS33
HelpURL: L:\Dev\Техническая документация\Sensor's\MEMS\LSM6DS33_3xGyro_3xAcc.pdf
footprint LGA-16_ST (PQFN, 16-Leads, Body 3,00x3,00mm, Pitch 0,50mm, IPC Medium Density)
pins: 1 Vddio, 2 SCL/CLK (in), 3 SDA/SDI, 4 SDO/SA0, 5 nCS/MODE, 6 INT2, 7 INT1, 8 RSV, 9 RSV, 10 RSV, 11 RSV, 12 GND, 13 GND, 14 NC, 15 RSV, 16 Vdd

## MEMS_Press-LPS22HB
designator U?, comment LPS22HBTR  (value not drawn)
I2C_address: 101110xb (0x5C; 0x5D); HelpURL: L:\Dev\Техническая документация\Датчики\Датчики давления\ST_LPS22HB.pdf
footprint HLGA-10_ST (PQFN, 16-Leads, Body 3,00x3,00mm, Pitch 0,50mm, IPC Medium Density)
pins: 1 Vddio (power), 2 SCL/SCK (in), 3 RESERVED, 4 SDA/SDI/SDO (io), 5 SDO/SA0 (io), 6 nCS (in), 7 INT_DRDY (out), 8 GND (power), 9 GND (power), 10 Vdd (power)

## MEMS_Press_2SMPB-01-01
designator U?, comment 2SMPB-01-01  (value not drawn)
I2C_address: 1110000b (0x70); HelpURL: L:\Dev\Техническая документация\Датчики\Датчики давления\Omron_2smpb-01-01.pdf
footprint QFN8_OMRON
pins: 1 NC, 2 Vdd (power), 3 Vddio (power), 4 TestA (out), 5 nRESET (in), 6 SCL (in), 7 SDA (io), 8 GND (power)

## MEMS_Press_DPS310XTSA1
designator U?, comment DPS310XTSA1  (value not drawn)
I2C_address: 111011xb (0x76;0x77); HelpURL: L:\Dev\Техническая документация\Датчики\Датчики давления\Infineon-DPS310-DS-v01_00-EN.pdf
footprint PG-VLGA-8-1_Infineon (LGA, 8-Leads, Body 2,00x2,50mmx1,00mm, Pitch 0,65mm)
pins: 1 GND (power), 2 CSB (in), 3 SDI/SDA (io), 4 SCK/SCL (in), 5 SDO/SA0 (io), 6 Vddio (power), 7 GND (power), 8 VDD (power)

## MOSFET_N_chan
designator *
pins: 1, 2, 3

## MT9171(72)PLCC
designator U?
pins: 1 NC, 2 Lout, 3 Vbias, 4 Vref, 5 MS2, 6 NC, 7 MS1, 8 MS0, 9 RegC, 10 F0/CLD, 11 NC, 12 CDSTi/CDi, 13 CDSTo/CDo, 14 Vss, 15 DSTo/Do, 16 DSTi/Di, 17 F0o/RCK, 18 NC, 19 C4/TCK, 20 NC, 21 OSC2, 22 OSC1, 23 Precan, 24 Lout DIS, 25 NC, 26 Test, 27 Lin, 28 VDD

## MT9171(72)SO
designator U?
footprint SSOP24
pins: 1 Lout, 2 Vbias, 3 Vref, 4 MS2, 5 MS1, 6 MS0, 7 RegC, 8 NC, 9 F0/CLD, 10 CDSTi/CDi, 11 CDSTo/CDo, 12 Vss, 13 DSTo/Do, 14 DSTi/Di, 15 F0o/RCK, 16 C4/TCK, 17 OSC2, 18 NC, 19 OSC1, 20 Precan, 21 Lout DIS, 22 Test, 23 Lin, 24 VDD

## Multivibrator_LL_SN74LVC1G123DCU
designator U?, comment SN74LVC1G123DCU
HelpURL: L:\Dev\Техническая документация\Логика\Мультивибраторы\sn74lvc1g123_monostable.pdf
footprint VSSOP8_R-PDSO-G8_TI
pins: 1 nA (in), 2 B (in), 3 nCLR (in), 4 GND (power), 5 Q (out), 6 Cext, 7 R/Cext, 8 Vcc (power)

## MUX1x3_TS5A3359DCUx
designator U?, comment TS5A3359DCU
HelpURL: L:\Dev\Техническая документация\Логика\Мультиплексоры\ts5a3359_1x3.pdf
footprint PSOP-8 (VSSOP-8)
pins: 1 IO0 (io), 2 IO1 (io), 3 IO2 (io), 4 GND (power), 5 IN2 (in), 6 IN1 (in), 7 COM (io), 8 Vcc (power)

## MUX_2(1x4)_74HC4052
designator U?, comment value 74HC4052  (hidden comment: 74HC4052D, NXP; CD74HC4052M, TI)
HelpURL: L:\Dev\Техническая документация\Логика\Мультиплексоры\cd74hc4052.pdf
footprint SO16
pins: 1 2Y0 (io), 2 2Y2 (io), 3 2Z (io), 4 2Y3 (io), 5 2Y1 (io), 6 nEn (in), 7 Vee (power), 8 GND (power), 9 S1 (in), 10 S0 (in), 11 1Y3 (io), 12 1Y0 (io), 13 1Z (io), 14 1Y1 (io), 15 1Y2 (io), 16 Vcc (power)

## MUX_2(1x4)_74HC4052_1
designator U?, comment value 74HC4052  (hidden comment: 74HC4052D, NXP; CD74HC4052M, TI)
HelpURL: L:\Dev\Техническая документация\Логика\Мультиплексоры\cd74hc4052.pdf
footprint SO16
pins: 1 2Y0 (io), 2 2Y2 (io), 3 2Z (io), 4 2Y3 (io), 5 2Y1 (io), 6 nEn (in), 7 Vee (power), 8 GND (power), 9 S1 (in), 10 S0 (in), 11 1Y3 (io), 12 1Y0 (io), 13 1Z (io), 14 1Y1 (io), 15 1Y2 (io), 16 Vcc (power)

## MUX_2(1x4)_74LV4052
designator U?, comment value 74LV4052  (hidden comment: 74LV4052D(NXP), SN74LV4052AN(TI))
HelpURL: L:\Dev\Техническая документация\Логика\Мультиплексоры\sn74lv4052a.pdf
footprint SO16
pins: 1 2Y0 (io), 2 2Y2 (io), 3 2Z (io), 4 2Y3 (io), 5 2Y1 (io), 6 NEn (in), 7 Vee (power), 8 GND (power), 9 S1 (in), 10 S0 (in), 11 1Y3 (io), 12 1Y0 (io), 13 1Z (io), 14 1Y1 (io), 15 1Y2 (io), 16 Vcc (power)

## MUX_3(1x2)_74HC4053
designator U?, comment value 74HC4053  (hidden comment: 74HC4053D, NXP; CD74HC4053M, TI)
footprint SO16
pins: 1 2Y0 (io), 2 2Y2 (io), 3 2Z (io), 4 2Y3 (io), 5 2Y1 (io), 6 nEn (in), 7 Vee (power), 8 GND (power), 9 S1 (in), 10 S0 (in), 11 1Y3 (io), 12 1Y0 (io), 13 1Z (io), 14 1Y1 (io), 15 1Y2 (io), 16 Vcc (power)

## MUX_SN74LVC1G3157DBVR
designator U?, comment SN74LVC1G3157DBVR
footprint SOT23-6
pins: 1 B2, 2 GND (power), 3 B1, 4 A, 5 Vcc, 6 S

## MUX_SN74LVC1G3157DCKR
designator U?, comment SN74LVC1G3157DCKR
footprint SC-70-6
pins: 1 B2, 2 GND (power), 3 B1, 4 A, 5 Vcc, 6 S

## MUX_SN74LVC2G66DCT
designator U?, comment SN74LVC2G66DCT
HelpURL: L:\Dev\Техническая документация\Логика\Мультиплексоры\sn74lvc2g66.pdf
footprint SSOP8_DCT_TI
pins: 1 1A, 2 1B, 3 2C (in), 4 GND (power), 5 2A, 6 2B, 7 1C (in), 8 Vcc (power)

## MUX_SN74LVC2G66DCT_1
designator U?, comment SN74LVC2G66DCT
HelpURL: L:\Dev\Техническая документация\Логика\Мультиплексоры\sn74lvc2g66.pdf
footprint SSOP8_DCT_TI
pins: 1 1A, 2 1B, 3 2C (in), 4 GND (power), 5 2A, 6 2B, 7 1C (in), 8 Vcc (power)

## MUX_TS5A3159DBV
designator U?, comment TS5A3159DBV(R,T)
HelpURL: L:\Dev\Техническая документация\Логика\Мультиплексоры\ts5a3159_1x2.pdf
footprint SOT23-6
pins: 1 NO, 2 GND (power), 3 NC, 4 COM, 5 Vcc, 6 IN

## MUX_TS5A3159DCK
designator U?, comment TS5A3159DCK(R,T)
HelpURL: L:\Dev\Техническая документация\Логика\Мультиплексоры\ts5a3159_1x2.pdf
footprint SC-70-6
pins: 1 NO, 2 GND (power), 3 NC, 4 COM, 5 Vcc (power), 6 IN (in)

## MUX_TS5A3159DCK_1
designator U?, comment TS5A3159DCK(R,T)
HelpURL: L:\Dev\Техническая документация\Логика\Мультиплексоры\ts5a3159_1x2.pdf
footprint SC-70-6
pins: 1 NO, 2 GND (power), 3 NC, 4 COM, 5 Vcc (power), 6 IN (in)

## NCP1539B
designator U?, comment NCP1593BMNTWG
footprint DSON-10
pins: 0 PGND (power), 1 LX (out), 2 LX (out), 3 LX (out), 4 PG (oc), 5 EN (in), 6 FB (in), 7 NC hidden, 8 VCCA (power), 9 VCCP (in), 10 VCCP (in)

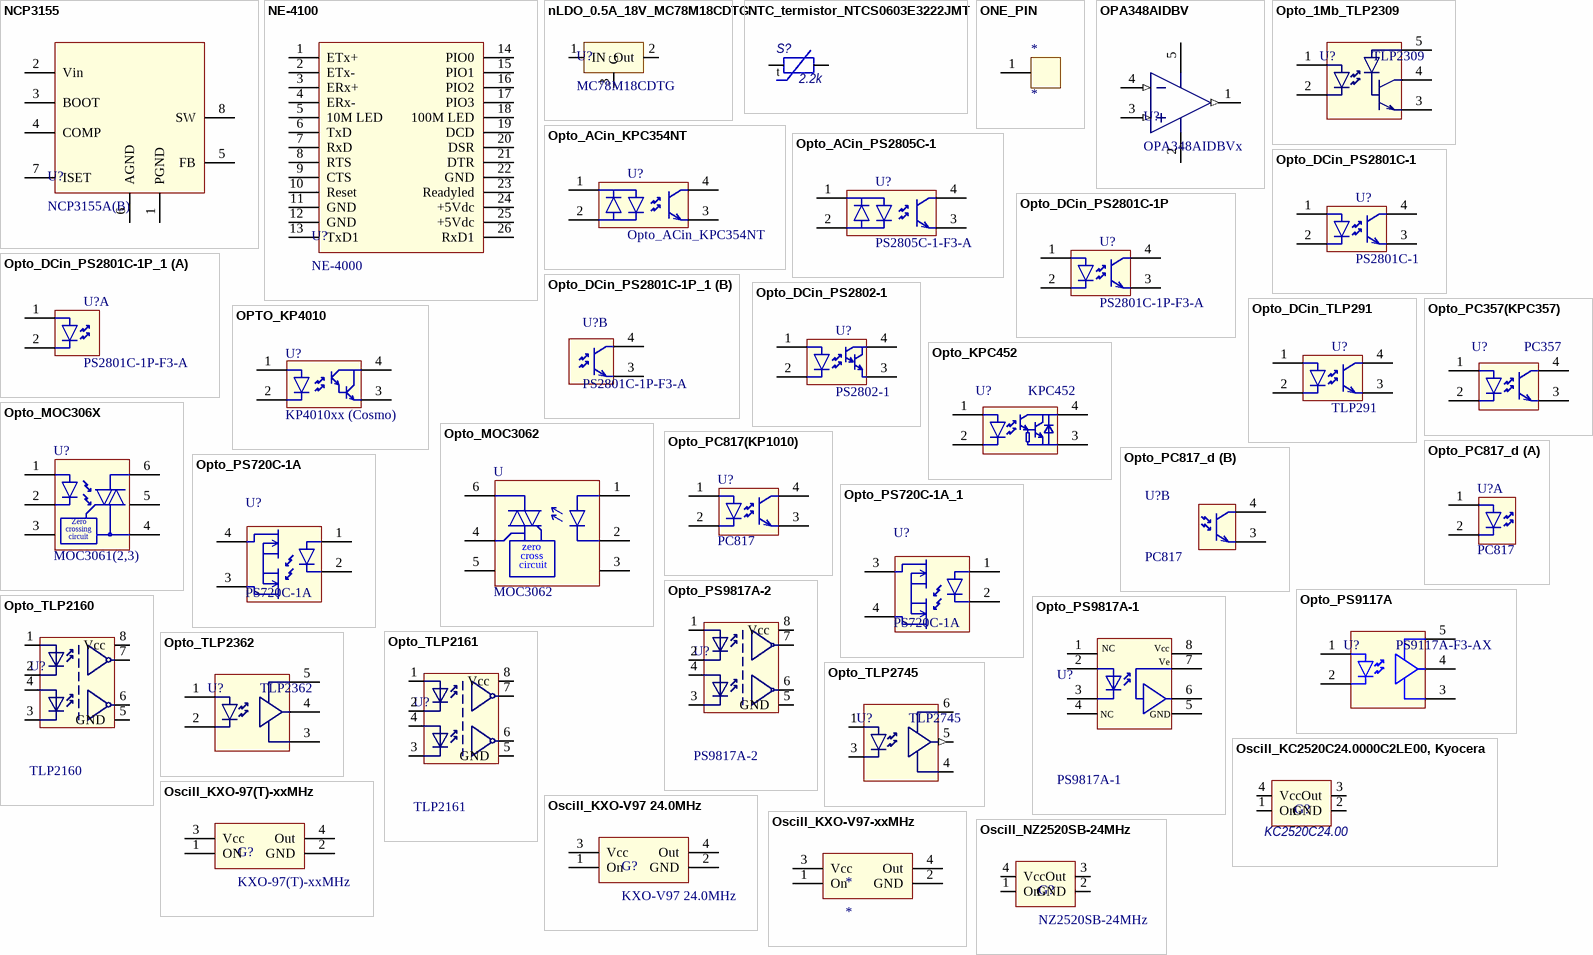
[diagram p20: symbols NCP3155 to Oscill_NZ2520SB-24MHz]

## NCP3155
designator U?, comment NCP3155A(B)
footprint SO8
pins: 1 PGND, 2 Vin, 3 BOOT, 4 COMP, 5 FB, 6 AGND, 7 ISET, 8 SW

## NE-4100
designator U?, comment NE-4000
footprint NE-4100T (Footprint not found)
pins: 1 ETx+, 2 ETx-, 3 ERx+, 4 ERx-, 5 10M LED, 6 TxD, 7 RxD, 8 RTS, 9 CTS, 10 Reset, 11 GND, 12 GND, 13 TxD1, 14 PIO0, 15 PIO1, 16 PIO2, 17 PIO3, 18 100M LED, 19 DCD, 20 DSR, 21 DTR, 22 GND, 23 Readyled, 24 +5Vdc, 25 +5Vdc, 26 RxD1

## nLDO_0.5A_18V_MC78M18CDTG
designator U?, comment MC78M18CDTG
Operatin Temperature: 0...125C; HelpURL: L:\Dev\Техническая документация\Стабилизаторы напряжения\Линейные классические\MC78M00-D_OnSemi.PDF
footprint D-PAK
pins: 1 IN, 2 Out, 3 G

## NTC_termistor_NTCS0603E3222JMT
designator S?, comment value 2.2k  (hidden comment: NTCS0603E3222JMT)
HelpURL: L:\Dev\Техническая документация\Термисторы\NTC\SMD\ntcs0603e3t.pdf
footprint 0603R_Unicont
pins: 1, 2
text: t

## ONE_PIN
designator *
footprint 1-hole (Footprint not found)
pins: 1

## OPA348AIDBV
designator U?, comment OPA348AIDBVx
footprint SOT23-5
pins: 1 OUT (out), 2 Vss (power), 3 +IN (in), 4 -IN (in), 5 Vcc (power)

## Opto_1Mb_TLP2309
designator U?, comment TLP2309
Analog: PS8101-F3-AX; HelpURL: L:\Dev\Техническая документация\Оптопары для цифровой техники\Toshiba\TLP2309_datasheet_en_20151127.pdf; ComponentLink1Description: PS8101-F3-AX_datasheet; ComponentLink1URL: L:\Dev\Техническая документация\Оптопары для цифровой техники\Renesas\PS8101.pdf
footprint SO-5
pins: 1, 2, 3 Vss (power), 4 (oc), 5 Vcc (power)

## Opto_ACin_KPC354NT
designator U?
footprint SOP4
pins: 1, 2, 3, 4

## Opto_ACin_PS2805C-1
designator U?, comment PS2805C-1-F3-A
Analog: TLP290, Toshiba; TLP290SE, Toshiba; HelpURL: L:\Dev\Техническая документация\Оптопары\Renesas\PS2805-1_PS2805-4_SSOP4.pdf; ComponentLink1Description: Datasheet; ComponentLink1URL: L:\Dev\Техническая документация\Оптопары\Renesas; ComponentLink2Description: Site of Manufactorer; ComponentLink2URL: www.renesas.com; ComponentLink3Description: Analog1_TLP290_Toshiba; ComponentLink3URL: L:\Dev\Техническая документация\Оптопары\Toshiba\TLP290_datasheet_en_20140908.pdf
footprint SSOP4
pins: 1, 2, 3, 4

## Opto_DCin_PS2801C-1
designator U?, comment PS2801C-1
HelpURL: L:\Dev\Техническая документация\Оптопары\Renesas\PS2801C-1,PS2801C-4.pdf; ComponentLink1Description: Datasheet; ComponentLink1URL: L:\Dev\Техническая документация\Оптопары\Renesas; ComponentLink2Description: Site of Manufactorer; ComponentLink2URL: www.renesas.com; Price, $: 0.2
footprint SSOP4
pins: 1, 2, 3, 4

## Opto_DCin_PS2801C-1P
designator U?, comment PS2801C-1P-F3-A
HelpURL: L:\Dev\Техническая документация\Оптопары\Renesas\; ComponentLink1Description: Datasheet; ComponentLink1URL: L:\Dev\Техническая документация\Оптопары\Renesas; ComponentLink2Description: Site of Manufactorer; ComponentLink2URL: www.renesas.com
footprint SSOP4
pins: 1, 2, 3, 4

## Opto_DCin_PS2801C-1P_1
designator U?, comment PS2801C-1P-F3-A
HelpURL: L:\Dev\Техническая документация\Оптопары\Renesas\; ComponentLink1Description: Datasheet; ComponentLink1URL: L:\Dev\Техническая документация\Оптопары\Renesas; ComponentLink2Description: Site of Manufactorer; ComponentLink2URL: www.renesas.com
footprint SSOP4
part A pins: 1, 2
part B pins: 3, 4

## Opto_DCin_PS2802-1
designator U?, comment PS2802-1
HelpURL: http://documentation.renesas.com/doc/YOUSYS/document/PN10252EJ02V0DS.pdf; ComponentLink1Description: Datasheet; ComponentLink1URL: L:\Dev\Техническая документация\Оптопары\Renesas; ComponentLink2Description: Site of Manufactorer; ComponentLink2URL: www.renesas.com
footprint SSOP4
pins: 1, 2, 3, 4

## Opto_DCin_TLP291
designator U?, comment TLP291
HelpURL: L:\Dev\Техническая документация\Оптопары\Toshiba\TLP291_datasheet_en_20140922.pdf; Price, $: 0.2
footprint SSOP4
pins: 1, 2, 3, 4

## OPTO_KP4010
designator U?, comment KP4010xx (Cosmo)
footprint DIP4
pins: 1, 2, 3, 4

## Opto_KPC452
designator U?, comment KPC452
Analog: PS2733-1-F3-A, Renesas
footprint SOP4
pins: 1, 2, 3, 4

## Opto_MOC306X
designator U?, comment MOC3061(2,3)
footprint DIP6
pins: 1, 2, 3, 4, 5, 6
text: Zero; crossing; circuit

## Opto_MOC3062
designator U, comment MOC3062
footprint DIP6
pins: 1, 2, 3, 4, 5, 6
text: zero; cross; circuit

## Opto_PC357(KPC357)
designator U?, comment PC357
Analog: KPC357
footprint SOP4
pins: 1, 2, 3, 4

## Opto_PC817(KP1010)
designator U?, comment PC817
footprint DIP4
pins: 1, 2, 3, 4

## Opto_PC817_d
designator U?, comment PC817
footprint DIP4
part A pins: 1, 2
part B pins: 3, 4

## Opto_PS720C-1A
designator U?, comment PS720C-1A
Analog: TLP3122, Toshiba
footprint SOP4_w4.5
pins: 1, 2, 3, 4

## Opto_PS720C-1A_1
designator U?, comment PS720C-1A
Analog: TLP3122, Toshiba
footprint SOP4_w4.5
pins: 1, 2, 3, 4

## Opto_PS9117A
designator U?, comment PS9117A-F3-AX
Analog: TLP2362, Toshiba; HelpURL: L:\Dev\Техническая документация\Оптопары для цифровой техники\PS9117A.pdf; ComponentLink1Description: Analog; ComponentLink1URL: L:\Dev\Техническая документация\Оптопары для цифровой техники\Toshiba\TLP2362_datasheet_en_20160119.pdf
footprint SO-5
pins: 1, 2, 3 Vss (power), 4 (oc), 5 Vcc (power)

## Opto_PS9817A-1
designator U?, comment PS9817A-1
footprint SO8
pins: 1 NC, 2 A, 3 C, 4 NC, 5 GND, 6 NC, 7 NC, 8 Vcc
text: Ve

## Opto_PS9817A-2
designator U?, comment PS9817A-2
footprint SO8
pins: 1 NC, 2 A, 3 C, 4 NC, 5 GND, 6 NC, 7 NC, 8 Vcc

## Opto_TLP2160
designator U?, comment TLP2160
HelpURL: L:\Dev\Техническая документация\Оптопары для цифровой техники\Toshiba\TLP2160.pdf
footprint SO8
pins: 1 NC, 2 A, 3 C, 4 NC, 5 GND, 6 NC, 7 NC, 8 Vcc

## Opto_TLP2161
designator U?, comment TLP2161
HelpURL: L:\Dev\Техническая документация\Оптопары для цифровой техники\Toshiba\TLP2161_datasheet_en_20170410-1.pdf
footprint SO8
pins: 1 NC, 2 A, 3 C, 4 NC, 5 GND, 6 NC, 7 NC, 8 Vcc

## Opto_TLP2362
designator U?, comment TLP2362
HelpURL: L:\Dev\Техническая документация\Оптопары для цифровой техники\Toshiba\TLP2362_datasheet_en_20160119.pdf; ComponentLink1Description: Analog
footprint SO-5
pins: 1, 2, 3 Vss (power), 4 (oc), 5 Vcc (power)

## Opto_TLP2745
designator U?, comment TLP2745
HelpURL: L:\Dev\Техническая документация\Оптопары для цифровой техники\Toshiba\TLP2745_datasheet_en_20180507.pdf; ComponentLink1Description: Analog
footprint SO6L
pins: 1, 3 Vss (power), 4 (power), 5 Vcc (out), 6 Vcc (power)

## Oscill_KC2520C24.0000C2LE00, Kyocera
designator G?, comment value KC2520C24.00  (hidden comment: KC2520C24.0000C2LE00, Kyocera)
Analog: ECS-2520S33-240-FN-TR, ECSinc; Tolerance: 15ppm; HelpURL: L:\Dev\Техническая документация\Генераторы\Кварцевые\Kyocera\kc2520c_c2_e.pdf; ComponentLink1URL: L:\Dev\Техническая документация\Генераторы\Кварцевые\ECSinc\ECS-2520S.pdf; ComponentLink1Description: Analog1_ECS-2520S33-240-FN-TR
footprint Crystal_Osc_SMD_2520
pins: 1 On (power), 2 GND (power), 3 Out (power), 4 Vcc (power)

## Oscill_KXO-97(T)-xxMHz
designator G?, comment KXO-97(T)-xxMHz
HelpURL: L:\Dev\Техническая документация\Кварцевые генераторы\Geyer\geyer~kxo-97.pdf
footprint Oscill_KXO-97(T)
pins: 1 ON (power), 2 GND (power), 3 Vcc (power), 4 Out (power)

## Oscill_KXO-V97 24.0MHz
designator G?, comment KXO-V97 24.0MHz
HelpURL: L:\Dev\Техническая документация\Кварцевые генераторы\Geyer\geyer~kxo-v97.pdf
footprint Oscill_KXO-V97
pins: 1 On (power), 2 GND (power), 3 Vcc (power), 4 Out (power)

## Oscill_KXO-V97-xxMHz
designator *
HelpURL: L:\Dev\Техническая документация\Кварцевые генераторы\Geyer\geyer~kxo-v97.pdf
footprint Oscill_KXO-V97
pins: 1 On (power), 2 GND (power), 3 Vcc (power), 4 Out (power)

## Oscill_NZ2520SB-24MHz
designator G?, comment NZ2520SB-24MHz
Analog: KC2520C24.0000C2LE00, Kyocera; HelpURL: L:\Dev\Техническая документация\Кварцевые генераторы\NDK\NZ2520S.pdf; ComponentLink1Description: Analog1_KC2520C24.0; ComponentLink1URL: L:\Dev\Техническая документация\Генераторы\Кварцевые\Kyocera\kc2520c_c2_e.pdf; ComponentLink2Description: Analog2_ECS-2520S33-240-FN-TR; ComponentLink1URL: L:\Dev\Техническая документация\Генераторы\Кварцевые\ECSinc\ECS-2520S.pdf
footprint Crystal_Osc_SMD_2520
pins: 1 On (power), 2 GND (power), 3 Out (power), 4 Vcc (power)

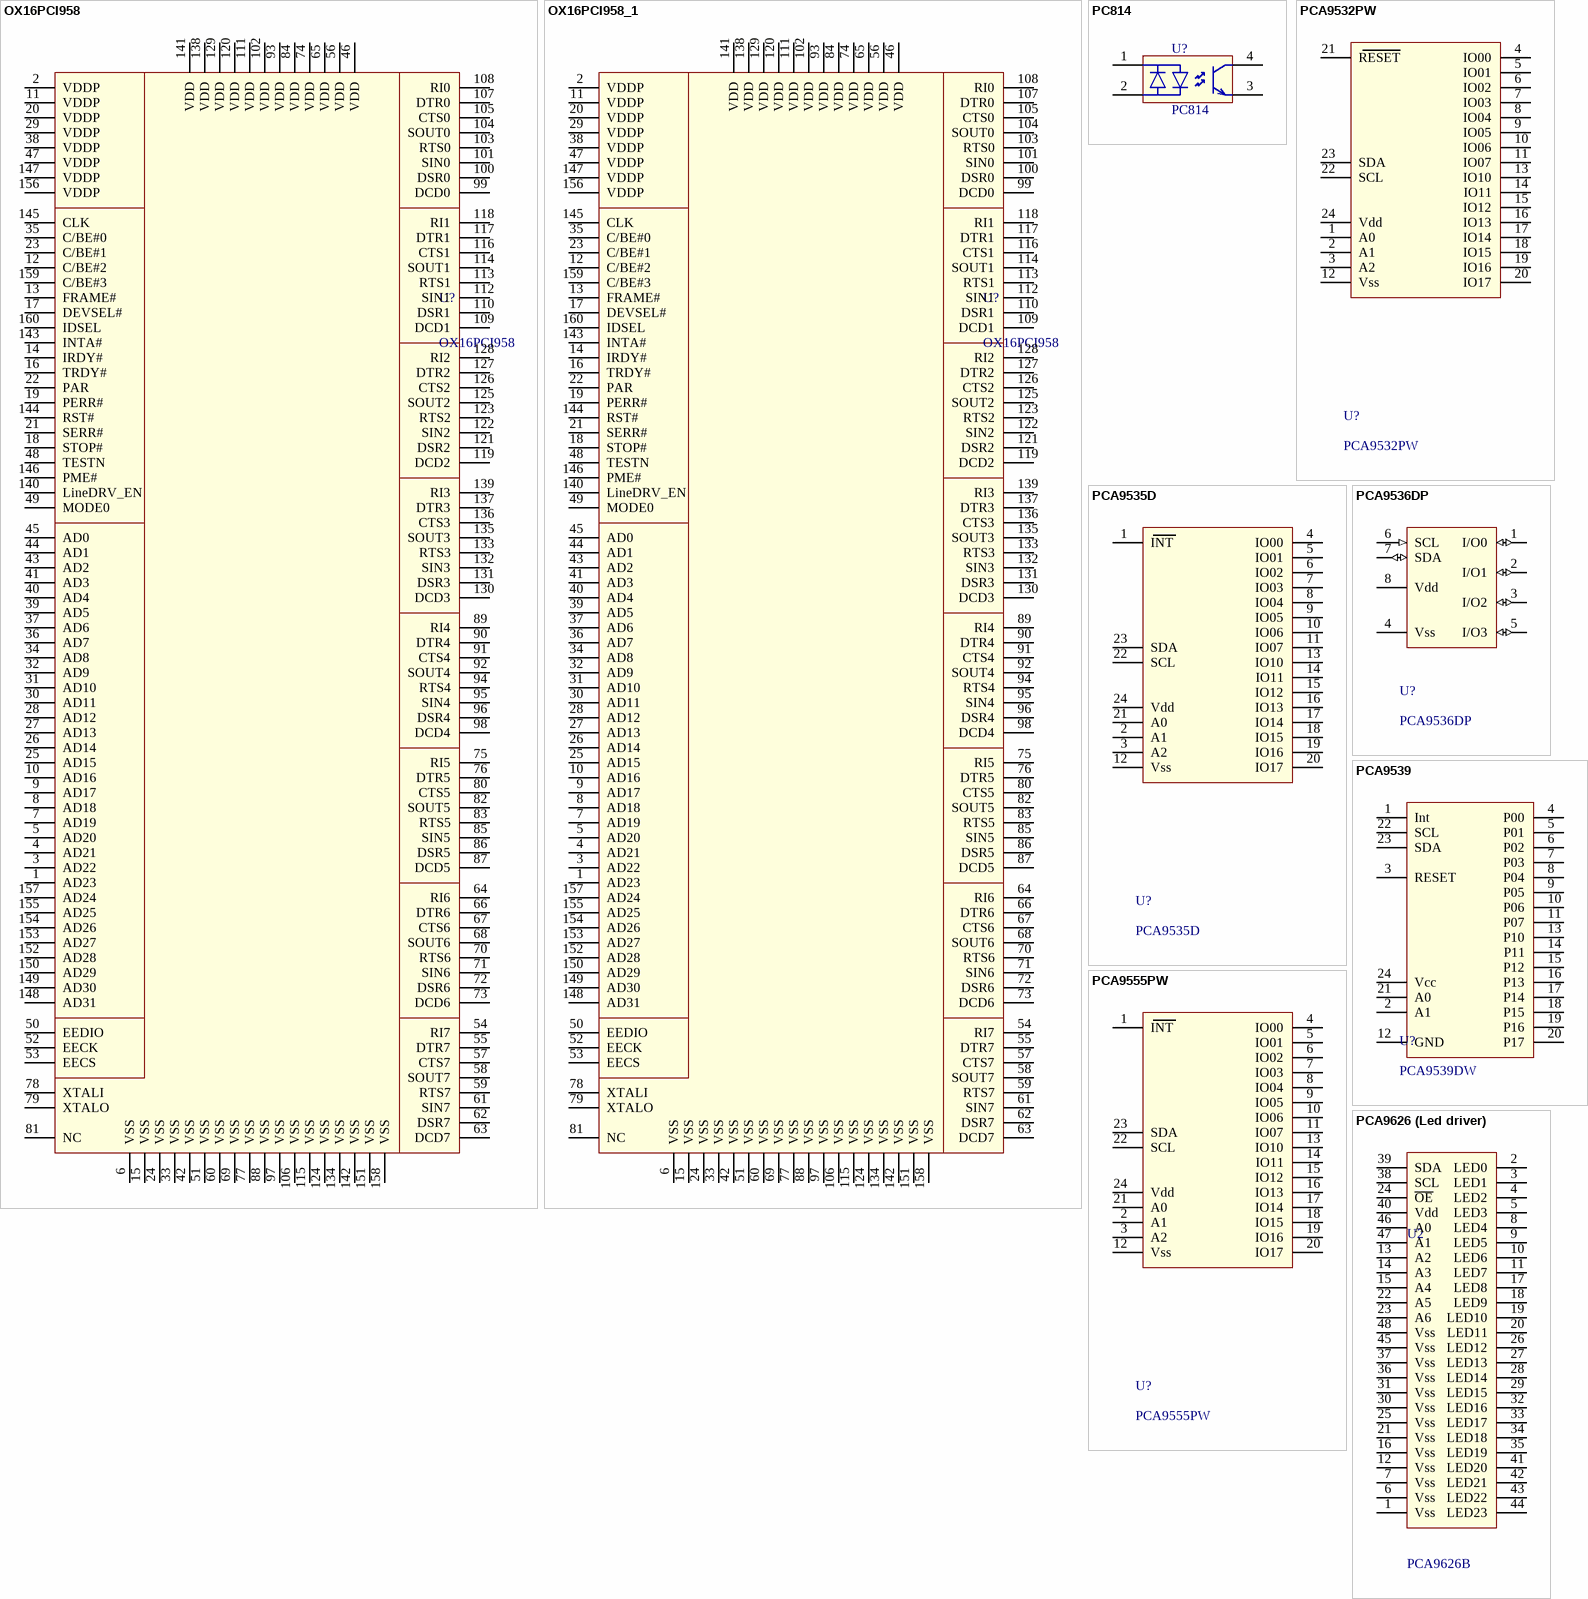
[diagram p21: symbols OX16PCI958 to PCA9626 (Led driver)]

## OX16PCI958
designator U?
footprint QFP-160
pins: 1 AD23, 2 VDDP, 3 AD22, 4 AD21, 5 AD20, 6 VSS, 7 AD19, 8 AD18, 9 AD17, 10 AD16, 11 VDDP, 12 C/BE#2, 13 FRAME#, 14 IRDY#, 15 VSS, 16 TRDY#, 17 DEVSEL#, 18 STOP#, 19 PERR#, 20 VDDP, 21 SERR#, 22 PAR, 23 C/BE#1, 24 VSS, 25 AD15, 26 AD14, 27 AD13, 28 AD12, 29 VDDP, 30 AD11, 31 AD10, 32 AD9, 33 VSS, 34 AD8, 35 C/BE#0, 36 AD7, 37 AD6, 38 VDDP, 39 AD5, 40 AD4, 41 AD3, 42 VSS, 43 AD2, 44 AD1, 45 AD0, 46 VDD, 47 VDDP, 48 TESTN, 49 MODE0, 50 EEDIO, 51 VSS, 52 EECK, 53 EECS, 54 RI7, 55 DTR7, 56 VDD, 57 CTS7, 58 SOUT7, 59 RTS7, 60 VSS, 61 SIN7, 62 DSR7, 63 DCD7, 64 RI6, 65 VDD, 66 DTR6, 67 CTS6, 68 SOUT6, 69 VSS, 70 RTS6, 71 SIN6, 72 DSR6, 73 DCD6, 74 VDD, 75 RI5, 76 DTR5, 77 VSS, 78 XTALI, 79 XTALO, 80 CTS5, 81 NC, 82 SOUT5, 83 RTS5, 84 VDD, 85 SIN5, 86 DSR5, 87 DCD5, 88 VSS, 89 RI4, 90 DTR4, 91 CTS4, 92 SOUT4, 93 VDD, 94 RTS4, 95 SIN4, 96 DSR4, 97 VSS, 98 DCD4, 99 DCD0, 100 DSR0, 101 SIN0, 102 VDD, 103 RTS0, 104 SOUT0, 105 CTS0, 106 VSS, 107 DTR0, 108 RI0, 109 DCD1, 110 DSR1, 111 VDD, 112 SIN1, 113 RTS1, 114 SOUT1, 115 VSS, 116 CTS1, 117 DTR1, 118 RI1, 119 DCD2, 120 VDD, 121 DSR2, 122 SIN2, 123 RTS2, 124 VSS, 125 SOUT2, 126 CTS2, 127 DTR2, 128 RI2, 129 VDD, 130 DCD3, 131 DSR3, 132 SIN3, 133 RTS3, 134 VSS, 135 SOUT3, 136 CTS3, 137 DTR3, 138 VDD, 139 RI3, 140 LineDRV_EN, 141 VDD, 142 VSS, 143 INTA#, 144 RST#, 145 CLK, 146 PME#, 147 VDDP, 148 AD31, 149 AD30, 150 AD29, 151 VSS, 152 AD28, 153 AD27, 154 AD26, 155 AD25, 156 VDDP, 157 AD24, 158 VSS, 159 C/BE#3, 160 IDSEL

## OX16PCI958_1
designator U?, comment OX16PCI958
footprint QFP-160
pins: 1 AD23, 2 VDDP, 3 AD22, 4 AD21, 5 AD20, 6 VSS, 7 AD19, 8 AD18, 9 AD17, 10 AD16, 11 VDDP, 12 C/BE#2, 13 FRAME#, 14 IRDY#, 15 VSS, 16 TRDY#, 17 DEVSEL#, 18 STOP#, 19 PERR#, 20 VDDP, 21 SERR#, 22 PAR, 23 C/BE#1, 24 VSS, 25 AD15, 26 AD14, 27 AD13, 28 AD12, 29 VDDP, 30 AD11, 31 AD10, 32 AD9, 33 VSS, 34 AD8, 35 C/BE#0, 36 AD7, 37 AD6, 38 VDDP, 39 AD5, 40 AD4, 41 AD3, 42 VSS, 43 AD2, 44 AD1, 45 AD0, 46 VDD, 47 VDDP, 48 TESTN, 49 MODE0, 50 EEDIO, 51 VSS, 52 EECK, 53 EECS, 54 RI7, 55 DTR7, 56 VDD, 57 CTS7, 58 SOUT7, 59 RTS7, 60 VSS, 61 SIN7, 62 DSR7, 63 DCD7, 64 RI6, 65 VDD, 66 DTR6, 67 CTS6, 68 SOUT6, 69 VSS, 70 RTS6, 71 SIN6, 72 DSR6, 73 DCD6, 74 VDD, 75 RI5, 76 DTR5, 77 VSS, 78 XTALI, 79 XTALO, 80 CTS5, 81 NC, 82 SOUT5, 83 RTS5, 84 VDD, 85 SIN5, 86 DSR5, 87 DCD5, 88 VSS, 89 RI4, 90 DTR4, 91 CTS4, 92 SOUT4, 93 VDD, 94 RTS4, 95 SIN4, 96 DSR4, 97 VSS, 98 DCD4, 99 DCD0, 100 DSR0, 101 SIN0, 102 VDD, 103 RTS0, 104 SOUT0, 105 CTS0, 106 VSS, 107 DTR0, 108 RI0, 109 DCD1, 110 DSR1, 111 VDD, 112 SIN1, 113 RTS1, 114 SOUT1, 115 VSS, 116 CTS1, 117 DTR1, 118 RI1, 119 DCD2, 120 VDD, 121 DSR2, 122 SIN2, 123 RTS2, 124 VSS, 125 SOUT2, 126 CTS2, 127 DTR2, 128 RI2, 129 VDD, 130 DCD3, 131 DSR3, 132 SIN3, 133 RTS3, 134 VSS, 135 SOUT3, 136 CTS3, 137 DTR3, 138 VDD, 139 RI3, 140 LineDRV_EN, 141 VDD, 142 VSS, 143 INTA#, 144 RST#, 145 CLK, 146 PME#, 147 VDDP, 148 AD31, 149 AD30, 150 AD29, 151 VSS, 152 AD28, 153 AD27, 154 AD26, 155 AD25, 156 VDDP, 157 AD24, 158 VSS, 159 C/BE#3, 160 IDSEL

## PC814
designator U?
footprint DIP4
pins: 1, 2, 3, 4

## PCA9532PW
designator U?
Analog: PCA9535PW
footprint TSSOP24
pins: 1 A0, 2 A1, 3 A2, 4 IO00, 5 IO01, 6 IO02, 7 IO03, 8 IO04, 9 IO05, 10 IO06, 11 IO07, 12 Vss, 13 IO10, 14 IO11, 15 IO12, 16 IO13, 17 IO14, 18 IO15, 19 IO16, 20 IO17, 21 RESET, 22 SCL, 23 SDA, 24 Vdd

## PCA9535D
designator U?
footprint SO24
pins: 1 INT, 2 A1, 3 A2, 4 IO00, 5 IO01, 6 IO02, 7 IO03, 8 IO04, 9 IO05, 10 IO06, 11 IO07, 12 Vss, 13 IO10, 14 IO11, 15 IO12, 16 IO13, 17 IO14, 18 IO15, 19 IO16, 20 IO17, 21 A0, 22 SCL, 23 SDA, 24 Vdd

## PCA9536DP
designator U?
footprint TSSOP8
pins: 1 I/O0 (io), 2 I/O1 (io), 3 I/O2 (io), 4 Vss (power), 5 I/O3 (io), 6 SCL (in), 7 SDA (io), 8 Vdd (power)

## PCA9539
designator U?, comment PCA9539DW
Analog: PCA9539D_(NXP)
footprint SO24
pins: 1 Int (power), 2 A1 (power), 3 RESET (power), 4 P00 (power), 5 P01 (power), 6 P02 (power), 7 P03 (power), 8 P04 (power), 9 P05 (power), 10 P06 (power), 11 P07 (power), 12 GND (power), 13 P10 (power), 14 P11 (power), 15 P12 (power), 16 P13 (power), 17 P14 (power), 18 P15 (power), 19 P16 (power), 20 P17 (power), 21 A0 (power), 22 SCL (power), 23 SDA (power), 24 Vcc (power)

## PCA9555PW
designator U?
Analog: PCA9535PW
footprint TSSOP24
pins: 1 INT, 2 A1, 3 A2, 4 IO00, 5 IO01, 6 IO02, 7 IO03, 8 IO04, 9 IO05, 10 IO06, 11 IO07, 12 Vss, 13 IO10, 14 IO11, 15 IO12, 16 IO13, 17 IO14, 18 IO15, 19 IO16, 20 IO17, 21 A0, 22 SCL, 23 SDA, 24 Vdd

## PCA9626 (Led driver)
designator U2, comment PCA9626B
HelpURL: L:\Dev\Техническая документация\Логика\Расширитель портов\PCA9626.pdf
footprint LQFP48_UNICONT
pins: 1 Vss, 2 LED0, 3 LED1, 4 LED2, 5 LED3, 6 Vss, 7 Vss, 8 LED4, 9 LED5, 10 LED6, 11 LED7, 12 Vss, 13 A2, 14 A3, 15 A4, 16 Vss, 17 LED8, 18 LED9, 19 LED10, 20 LED11, 21 Vss, 22 A5, 23 A6, 24 ~{OE}, 25 Vss, 26 LED12, 27 LED13, 28 LED14, 29 LED15, 30 Vss, 31 Vss, 32 LED16, 33 LED17, 34 LED18, 35 LED19, 36 Vss, 37 Vss, 38 SCL, 39 SDA, 40 Vdd, 41 LED20, 42 LED21, 43 LED22, 44 LED23, 45 Vss, 46 A0, 47 A1, 48 Vss

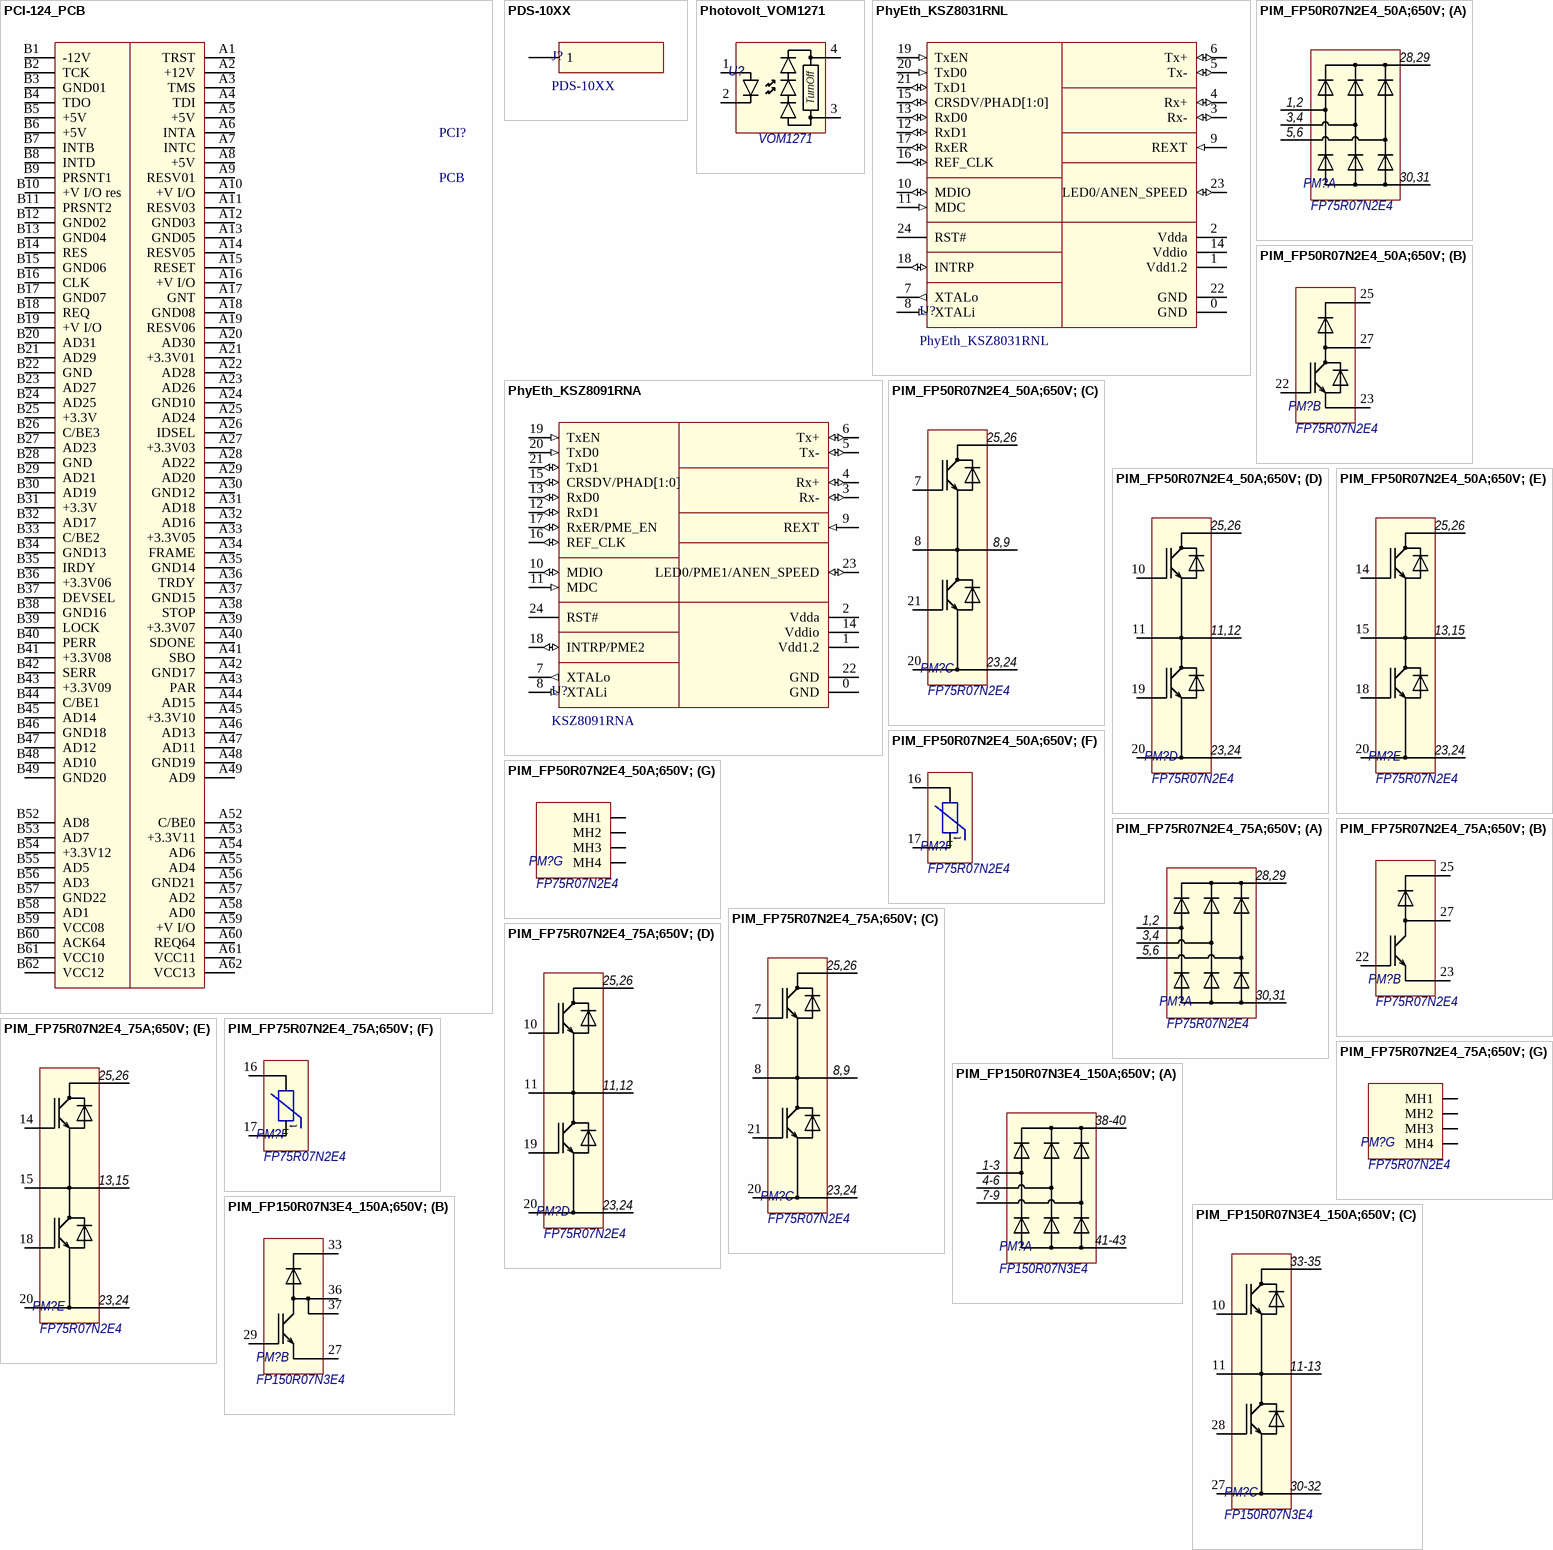
[diagram p22: symbols PCI-124_PCB to PIM_FP150R07N3E4_150A;650V;]

## PCI-124_PCB
designator PCI?, comment PCB
footprint PCI_PCB
pins: A1 TRST, A2 +12V, A3 TMS, A4 TDI, A5 +5V, A6 INTA, A7 INTC, A8 +5V, A9 RESV01, A10 +V I/O, A11 RESV03, A12 GND03, A13 GND05, A14 RESV05, A15 RESET, A16 +V I/O, A17 GNT, A18 GND08, A19 RESV06, A20 AD30, A21 +3.3V01, A22 AD28, A23 AD26, A24 GND10, A25 AD24, A26 IDSEL, A27 +3.3V03, A28 AD22, A29 AD20, A30 GND12, A31 AD18, A32 AD16, A33 +3.3V05, A34 FRAME, A35 GND14, A36 TRDY, A37 GND15, A38 STOP, A39 +3.3V07, A40 SDONE, A41 SBO, A42 GND17, A43 PAR, A44 AD15, A45 +3.3V10, A46 AD13, A47 AD11, A48 GND19, A49 AD9, A52 C/BE0, A53 +3.3V11, A54 AD6, A55 AD4, A56 GND21, A57 AD2, A58 AD0, A59 +V I/O, A60 REQ64, A61 VCC11, A62 VCC13, B1 -12V, B2 TCK, B3 GND01, B4 TDO, B5 +5V, B6 +5V, B7 INTB, B8 INTD, B9 PRSNT1, B10 +V I/O res, B11 PRSNT2, B12 GND02, B13 GND04, B14 RES, B15 GND06, B16 CLK, B17 GND07, B18 REQ, B19 +V I/O, B20 AD31, B21 AD29, B22 GND, B23 AD27, B24 AD25, B25 +3.3V, B26 C/BE3, B27 AD23, B28 GND, B29 AD21, B30 AD19, B31 +3.3V, B32 AD17, B33 C/BE2, B34 GND13, B35 IRDY, B36 +3.3V06, B37 DEVSEL, B38 GND16, B39 LOCK, B40 PERR, B41 +3.3V08, B42 SERR, B43 +3.3V09, B44 C/BE1, B45 AD14, B46 GND18, B47 AD12, B48 AD10, B49 GND20, B52 AD8, B53 AD7, B54 +3.3V12, B55 AD5, B56 AD3, B57 GND22, B58 AD1, B59 VCC08, B60 ACK64, B61 VCC10, B62 VCC12

## PDS-10XX
designator J?
footprint Terminal_PDS-10
pins: 1

## Photovolt_VOM1271
designator U?, comment value VOM1271  (hidden comment: VOM1271T, Vishay)
HelpURL: L:\Dev\Техническая документация\Фотовольтатические микросхемы\vishay~vom1271.pdf; Price, $: 1.5
footprint SOP4_w4.5
pins: 1 (power), 2 (power), 3 (power), 4 (power)
text: TurnOff

## PhyEth_KSZ8031RNL
designator U?
Supply Current max(A): 50mA; HelpURL: L:\Dev\Техническая документация\Интерфейсы\Ethernet\KSZ8031_21_51.pdf
footprint QFN24
pins: 0 GND (power), 1 Vdd1.2 (power), 2 Vdda (power), 3 Rx- (io), 4 Rx+ (io), 5 Tx- (io), 6 Tx+ (io), 7 XTALo (out), 8 XTALi (in), 9 REXT (in), 10 MDIO (io), 11 MDC (in), 12 RxD1 (io), 13 RxD0 (io), 14 Vddio (power), 15 CRSDV/PHAD[1:0] (io), 16 REF_CLK (io), 17 RxER (io), 18 INTRP (io), 19 TxEN (in), 20 TxD0 (in), 21 TxD1 (io), 22 GND (power), 23 LED0/ANEN_SPEED (io), 24 RST# (power)

## PhyEth_KSZ8091RNA
designator U?, comment KSZ8091RNA
Supply Current max(A): 50mA; HelpURL: L:\Dev\Техническая документация\Интерфейсы\Ethernet\KSZ8091RNx.pdf
footprint QFN24
pins: 0 GND (power), 1 Vdd1.2 (power), 2 Vdda (power), 3 Rx- (io), 4 Rx+ (io), 5 Tx- (io), 6 Tx+ (io), 7 XTALo (out), 8 XTALi (in), 9 REXT (in), 10 MDIO (io), 11 MDC (in), 12 RxD1 (io), 13 RxD0 (io), 14 Vddio (power), 15 CRSDV/PHAD[1:0] (io), 16 REF_CLK (io), 17 RxER/PME_EN (io), 18 INTRP/PME2 (io), 19 TxEN (in), 20 TxD0 (in), 21 TxD1 (io), 22 GND (power), 23 LED0/PME1/ANEN_SPEED (io), 24 RST# (power)

## PIM_FP50R07N2E4_50A;650V;
designator PM?, comment value FP75R07N2E4  (hidden comment: FP75R07N2E4, Infineon)
HelpURL: L:\Dev\Техническая документация\Транзисторы\IGBT\PIM\Infineon-FP75R07N2E4-DS-v03_00-EN.pdf; Price, $: 58
footprint PIM_Inf_EconoPIM_2
part A pins: 1, 2, 3, 4, 5, 6, 28, 29, 30, 31
part B pins: 22, 23, 25, 27
part C pins: 7, 8, 8, 9, 20, 20, 21, 23, 24, 25, 26
part D pins: 10, 11, 11, 12, 19, 20, 20, 23, 24, 25, 26
part E pins: 13, 14, 15, 15, 18, 20, 20, 23, 24, 25, 26
part F pins: 16, 17
part G pins: MH1 (power), MH2 (power), MH3 (power), MH4 (power)
part A text: 28,29; 1,2; 3,4; 5,6; 30,31
part C text: 25,26; 8,9; 23,24
part D text: 25,26; 11,12; 23,24
part E text: 25,26; 13,15; 23,24
part F text: t

## PIM_FP75R07N2E4_75A;650V;
designator PM?, comment value FP75R07N2E4  (hidden comment: FP75R07N2E4, Infineon)
HelpURL: L:\Dev\Техническая документация\Транзисторы\IGBT\PIM\Infineon-FP75R07N2E4-DS-v03_00-EN.pdf; Price, $: 62
footprint PIM_Inf_EconoPIM_2
part A pins: 1, 2, 3, 4, 5, 6, 28, 29, 30, 31
part B pins: 22, 23, 25, 27
part C pins: 7, 8, 8, 9, 20, 20, 21, 23, 24, 25, 26
part D pins: 10, 11, 11, 12, 19, 20, 20, 23, 24, 25, 26
part E pins: 13, 14, 15, 15, 18, 20, 20, 23, 24, 25, 26
part F pins: 16, 17
part G pins: MH1 (power), MH2 (power), MH3 (power), MH4 (power)
part A text: 28,29; 1,2; 3,4; 5,6; 30,31
part C text: 25,26; 8,9; 23,24
part D text: 25,26; 11,12; 23,24
part E text: 25,26; 13,15; 23,24
part F text: t

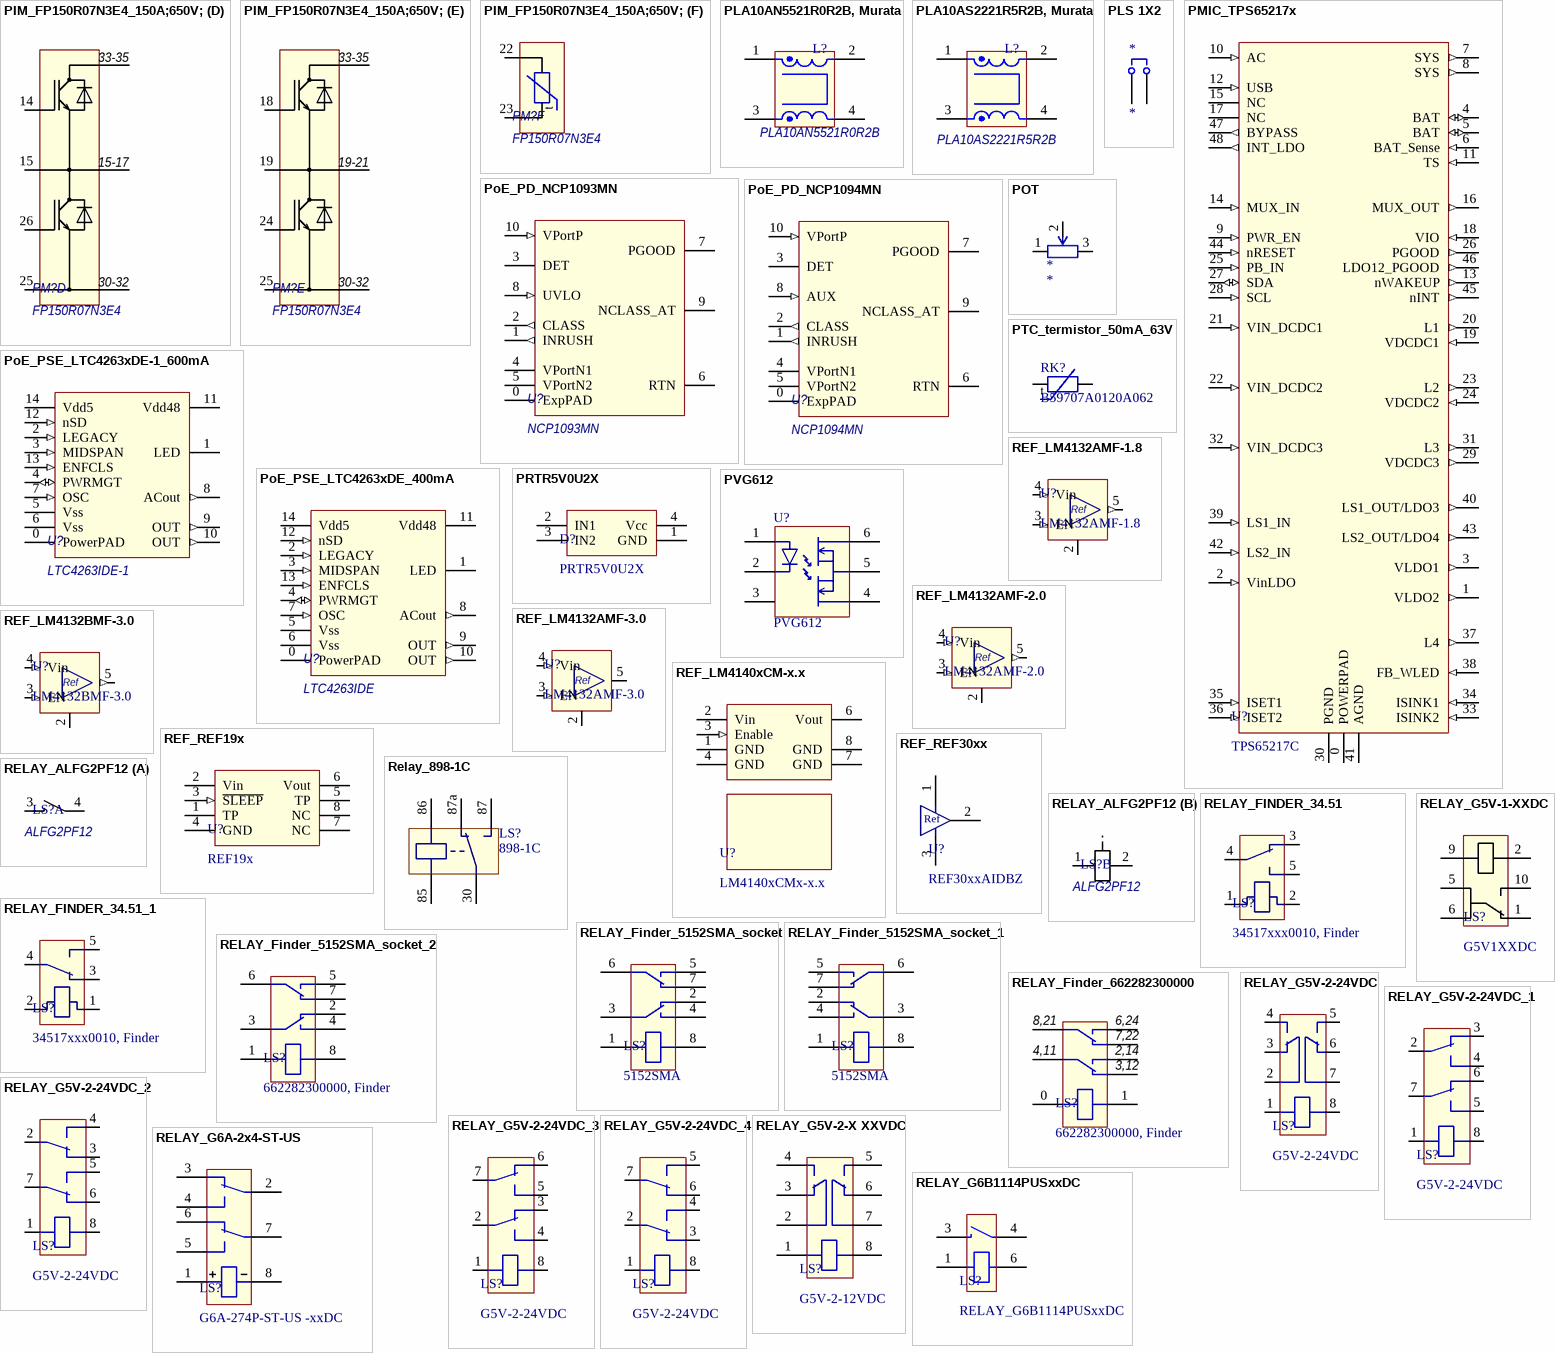
[diagram p23: symbols PIM_FP150R07N3E4_150A;650V; to RELAY_G6B1114PUSxxDC]

## PIM_FP150R07N3E4_150A;650V;
designator PM?, comment value FP150R07N3E4  (hidden comment: FP150R07N3E4, Infineon)
HelpURL: L:\Dev\Техническая документация\Транзисторы\IGBT\PIM\Infineon-FP150R07N3E4-DS-v02_00-en_de.pdf; Price, $: 105
footprint PIM_Inf_EconoPIM_3
part A pins: 1, 2, 3, 4, 5, 6, 7, 8, 9, 38, 39, 40, 41, 42, 43
part B pins: 27, 29, 33, 36, 37
part C pins: 10, 11, 11, 12, 13, 27, 28, 30, 31, 32, 33, 34, 35
part D pins: 14, 15, 15, 16, 17, 25, 26, 30, 31, 32, 33, 34, 35
part E pins: 18, 19, 19, 20, 21, 24, 25, 30, 31, 32, 33, 34, 35
part F pins: 22, 23
part A text: 38-40; 1-3; 4-6; 7-9; 41-43
part C text: 33-35; 11-13; 30-32
part D text: 33-35; 15-17; 30-32
part E text: 33-35; 19-21; 30-32
part F text: t

## PLA10AN5521R0R2B, Murata
designator L?  Name: PLA10AN5521R0R2B  (hidden comment: PLA10AN5521R0R2B, Murata)
footprint induct_PLA10H
pins: 1, 2, 3, 4

## PLA10AS2221R5R2B, Murata
designator L?  value PLA10AS2221R5R2B  (hidden comment: PLA10AS2221R5R2B, Murata)
footprint induct_PLA10H
pins: 1, 2, 3, 4

## PLS 1X2
designator *
pins: 1, 2